# Altium schematic symbol library Hello.SchLib: 388 symbols (part 2 of 3)
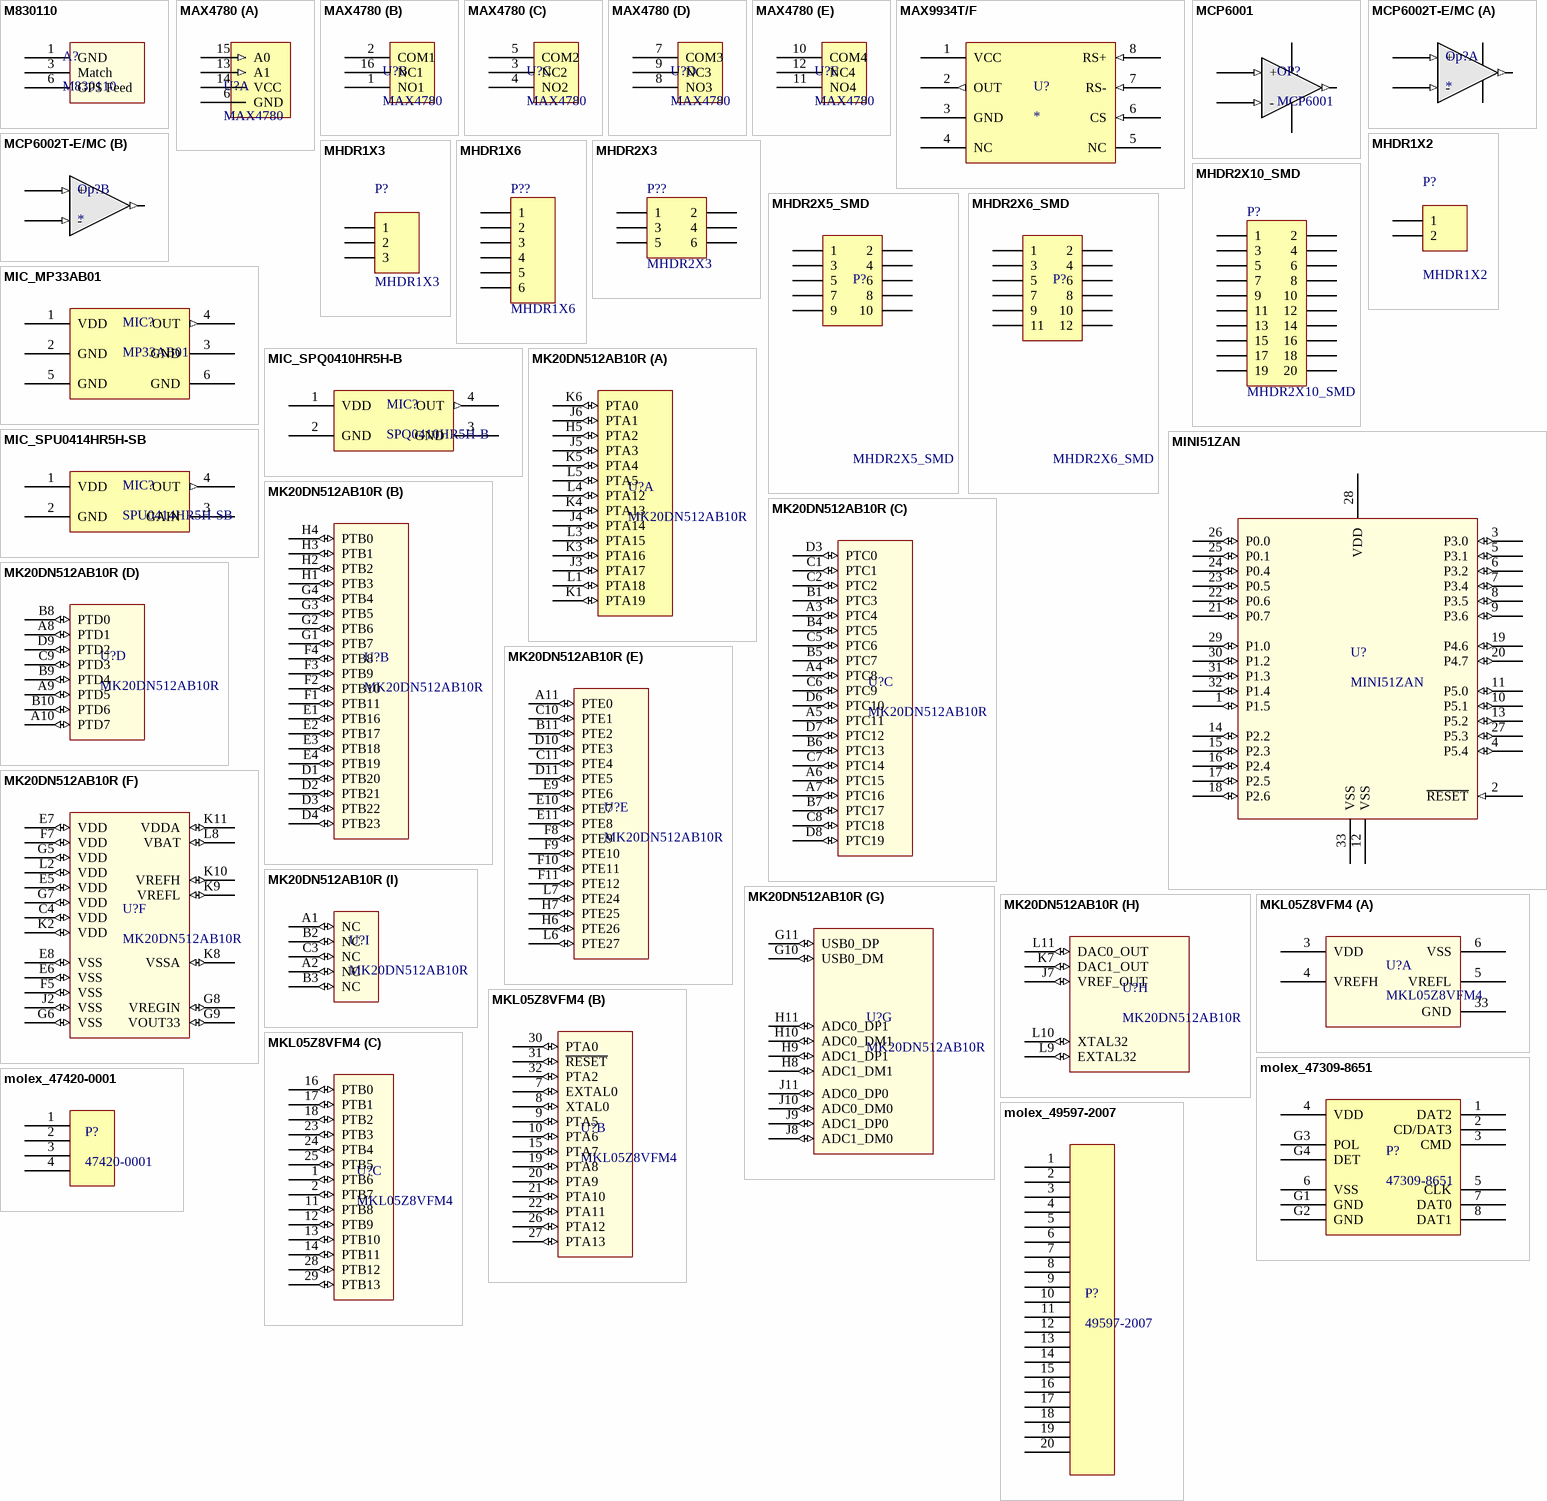
[diagram p12: symbols M830110 to molex_49597-2007]

## MHDR1X6
designator P??
Header, 6-Pin; LatestRevisionDate: 17-Jul-2002; LatestRevisionNote: Re-released for DXP Platform.; Publisher: Altium Limited
footprint MHDR1X6 (Connector; Header; 6 Position)
signal-integrity model Connector
pins: 1, 2, 3, 4, 5, 6

## MHDR2X3
designator P??
Header, 6-Pin, Dual row; LatestRevisionDate: 17-Jul-2002; LatestRevisionNote: Re-released for DXP Platform.; Publisher: Altium Limited
footprint MHDR2X3 (Connector; Header; 3x2 Position)
signal-integrity model Connector
pins: 1, 2, 3, 4, 5, 6

## MHDR2X5_SMD
designator P?
Header, 10-Pin, Dual row SMD; PN: GRPB052VWQS-RC; Vendor: Sullins Interconnect
signal-integrity model Connector
footprint MHDR2X5_SMD (Connector; Header; 5x2 Position SMD)
pins: 1, 2, 3, 4, 5, 6, 7, 8, 9, 10

## MHDR2X6_SMD
designator P?
Header, 12-Pin, Dual row SMD; PN: GRPB062VWQS-RC; Vendor: Sullins Interconnect
signal-integrity model Connector
footprint MHDR2X6 _SMD (Connector; Header; 6x2 Position SMD)
pins: 1, 2, 3, 4, 5, 6, 7, 8, 9, 10, 11, 12

## MHDR2X10_SMD
designator P?
Header, 20-Pin, Dual row SMD; PN: GRPB102VWQS-RC; Vendor: Sullins Interconnect
signal-integrity model Connector
footprint MHDR2X10_SMD (Connector; Header; 10x2 Position SMD)
pins: 1, 2, 3, 4, 5, 6, 7, 8, 9, 10, 11, 12, 13, 14, 15, 16, 17, 18, 19, 20

## MIC_MP33AB01
designator MIC?, comment MP33AB01
ST analog microphone; PN: MP33AB01; Vendor: ST
footprint MIC_MP33AB01 (ST MEMS analog bottom-port microphone)
pins: 1 VDD (power), 2 GND (power), 3 GND (power), 4 OUT (out), 5 GND (power), 6 GND (power)

## MIC_SPQ0410HR5H-B
designator MIC?, comment SPQ0410HR5H-B
Knowles analog microphone; PN: SPQ0410HR5H-B; Vendor: Knowles
footprint MIC_SPQ0410HR5H-B (Knowles analog microphone)
pins: 1 VDD (power), 2 GND (power), 3 GND (power), 4 OUT (out)

## MIC_SPU0414HR5H-SB
designator MIC?, comment SPU0414HR5H-SB
Knowles analog microphone; PN: SPU0414HR5H-SB; Vendor: Knowles
footprint MIC_SPU0414HR5H-SB (Knowles analog microphone)
pins: 1 VDD (power), 2 GND (power), 3 GAIN, 4 OUT (out)

## MINI51ZAN
designator U?
Cortex M0 uC; Vendor: Nuvoton; PN: MINI51ZAN
footprint QFN-33_5x5mm
pins: 1 P1.5 (io), 2 ~{RESET} (in), 3 P3.0 (io), 4 P5.4 (io), 5 P3.1 (io), 6 P3.2 (io), 7 P3.4 (io), 8 P3.5 (io), 9 P3.6 (io), 10 P5.1 (io), 11 P5.0 (io), 12 VSS (power), 13 P5.2 (io), 14 P2.2 (io), 15 P2.3 (io), 16 P2.4 (io), 17 P2.5 (io), 18 P2.6 (io), 19 P4.6 (io), 20 P4.7 (io), 21 P0.7 (io), 22 P0.6 (io), 23 P0.5 (io), 24 P0.4 (io), 25 P0.1 (io), 26 P0.0 (io), 27 P5.3 (io), 28 VDD (power), 29 P1.0 (io), 30 P1.2 (io), 31 P1.3 (io), 32 P1.4 (io), 33 VSS (power)

## MK20DN512AB10R
designator U?
Freescale M4F microprocessor; PN: MK20DN512AB10R; Vendor: Freescale
footprint WLCSP-120_0.4 (Wafer level chip size package, 120 pins, 0.4 mm pitch)
part A pins: H5 PTA2 (io), J3 PTA17 (io), J4 PTA14 (io), J5 PTA3 (io), J6 PTA1 (io), K1 PTA19 (io), K3 PTA16 (io), K4 PTA13 (io), K5 PTA4 (io), K6 PTA0 (io), L1 PTA18 (io), L3 PTA15 (io), L4 PTA12 (io), L5 PTA5 (io)
part B pins: D1 PTB20 (io), D2 PTB21 (io), D3 PTB22 (io), D4 PTB23 (io), E1 PTB16 (io), E2 PTB17 (io), E3 PTB18 (io), E4 PTB19 (io), F1 PTB11 (io), F2 PTB10 (io), F3 PTB9 (io), F4 PTB8 (io), G1 PTB7 (io), G2 PTB6 (io), G3 PTB5 (io), G4 PTB4 (io), H1 PTB3 (io), H2 PTB2 (io), H3 PTB1 (io), H4 PTB0 (io)
part C pins: A3 PTC4 (io), A4 PTC8 (io), A5 PTC11 (io), A6 PTC15 (io), A7 PTC16 (io), B1 PTC3 (io), B4 PTC5 (io), B5 PTC7 (io), B6 PTC13 (io), B7 PTC17 (io), C1 PTC1 (io), C2 PTC2 (io), C5 PTC6 (io), C6 PTC9 (io), C7 PTC14 (io), C8 PTC18 (io), D3 PTC0 (io), D6 PTC10 (io), D7 PTC12 (io), D8 PTC19 (io)
part D pins: A8 PTD1 (io), A9 PTD5 (io), A10 PTD7 (io), B8 PTD0 (io), B9 PTD4 (io), B10 PTD6 (io), C9 PTD3 (io), D9 PTD2 (io)
part E pins: A11 PTE0 (io), B11 PTE2 (io), C10 PTE1 (io), C11 PTE4 (io), D10 PTE3 (io), D11 PTE5 (io), E9 PTE6 (io), E10 PTE7 (io), E11 PTE8 (io), F8 PTE9 (io), F9 PTE10 (io), F10 PTE11 (io), F11 PTE12 (io), H6 PTE26 (io), H7 PTE25 (io), L6 PTE27 (io), L7 PTE24 (io)
part F pins: C4 VDD (io), E5 VDD (io), E6 VSS (io), E7 VDD (io), E8 VSS (io), F5 VSS (io), F7 VDD (io), G5 VDD (io), G6 VSS (io), G7 VDD (io), G8 VREGIN (io), G9 VOUT33 (io), J2 VSS (io), K2 VDD (io), K8 VSSA (io), K9 VREFL (io), K10 VREFH (io), K11 VDDA (io), L2 VDD (io), L8 VBAT (io)
part G pins: G10 USB0_DM (io), G11 USB0_DP (io), H8 ADC1_DM1 (io), H9 ADC1_DP1 (io), H10 ADC0_DM1 (io), H11 ADC0_DP1 (io), J8 ADC1_DM0 (io), J9 ADC1_DP0 (io), J10 ADC0_DM0 (io), J11 ADC0_DP0 (io)
part H pins: J7 VREF_OUT (io), K7 DAC1_OUT (io), L9 EXTAL32 (io), L10 XTAL32 (io), L11 DAC0_OUT (io)
part I pins: A1 NC (io), A2 NC (io), B2 NC (io), B3 NC (io), C3 NC (io)

## MKL05Z8VFM4
designator U?
Freescale M0 uC, 48-MHz, QFN-33; PN: MKL05Z8VFM4; Vendor: Freescale
footprint QFN-33_5x5mm
part A pins: 3 VDD (power), 4 VREFH (power), 5 VREFL (power), 6 VSS (power), 33 GND (power)
part B pins: 7 EXTAL0 (io), 8 XTAL0 (io), 9 PTA5 (io), 10 PTA6 (io), 15 PTA7 (io), 19 PTA8 (io), 20 PTA9 (io), 21 PTA10 (io), 22 PTA11 (io), 26 PTA12 (io), 27 PTA13 (io), 30 PTA0 (io), 31 ~{RESET} (io), 32 PTA2 (io)
part C pins: 1 PTB6 (io), 2 PTB7 (io), 11 PTB8 (io), 12 PTB9 (io), 13 PTB10 (io), 14 PTB11 (io), 16 PTB0 (io), 17 PTB1 (io), 18 PTB2 (io), 23 PTB3 (io), 24 PTB4 (io), 25 PTB5 (io), 28 PTB12 (io), 29 PTB13 (io)

## molex_47309-8651
designator P?, comment 47309-8651
Molex SD card connector; PN: 47309-8651; Vendor: Molex
footprint molex_47309-8651 (molex sd card connector)
pins: 1 DAT2, 2 CD/DAT3, 3 CMD, 4 VDD (power), 5 CLK, 6 VSS (power), 7 DAT0, 8 DAT1, G1 GND (power), G2 GND (power), G3 POL, G4 DET

## molex_47420-0001
designator P?, comment 47420-0001
Molex 4-pin spring connector 1.8 mm working height; PN: 47420-0001; Vendor: Molex
footprint molex_47420-0001 (Molex 4-pin spring connector)
pins: 1, 2, 3, 4

## molex_49597-2007
designator P?, comment 49597-2007
Molex 20-pin 1.25mm pitch connector; PN: 49597-2007; Vendor: Molex
footprint molex_49597-2007 (Molex 20-pin 1.25mm pitch connector)
pins: 1, 2, 3, 4, 5, 6, 7, 8, 9, 10, 11, 12, 13, 14, 15, 16, 17, 18, 19, 20

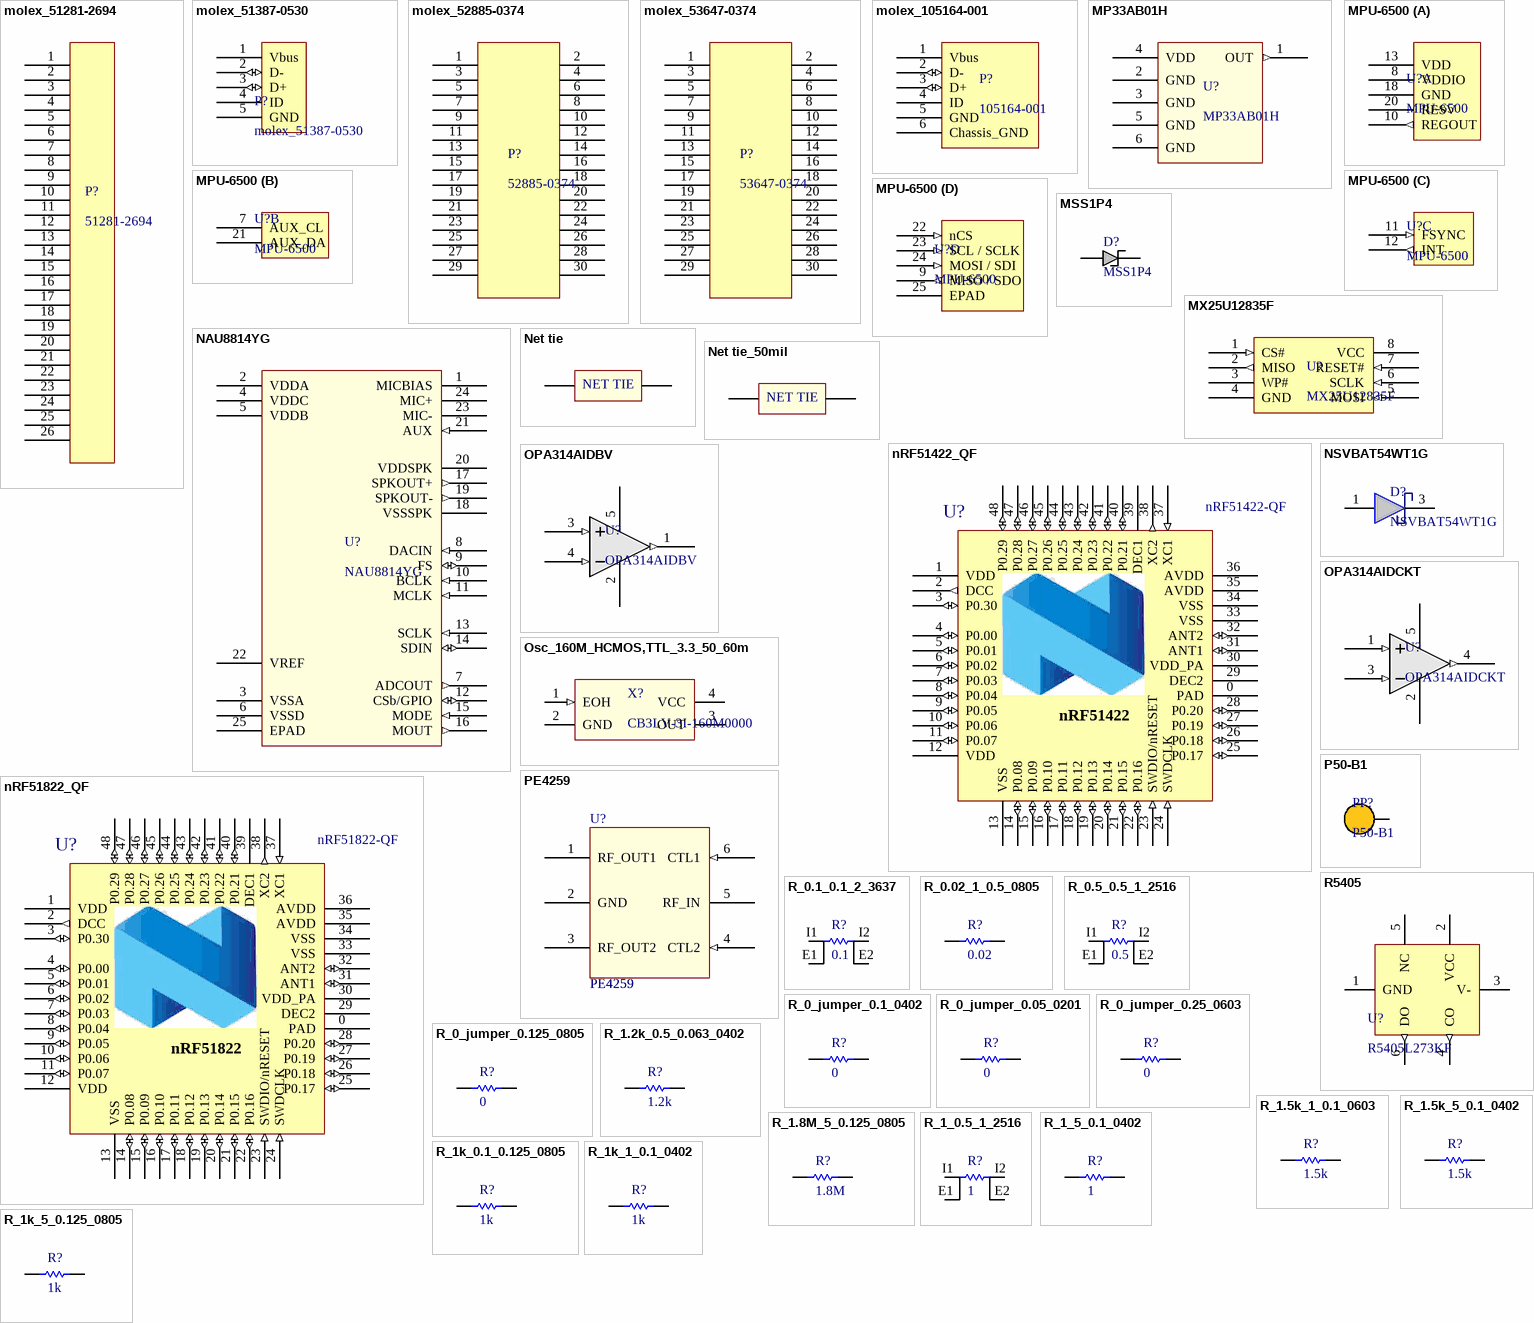
[diagram p6: symbols molex_51281-2694 to R_1k_5_0.125_0805]

## molex_51281-2694
designator P?, comment 51281-2694
Molex 26-pin 0.5mm pitch connector; PN: 51281-2694; Vendor: Molex
footprint molex_51281-2694 (Molex 26-pin 0.5mm pitch connector)
pins: 1, 2, 3, 4, 5, 6, 7, 8, 9, 10, 11, 12, 13, 14, 15, 16, 17, 18, 19, 20, 21, 22, 23, 24, 25, 26

## molex_51387-0530
designator P?
Molex right-angle USB Mini-B OTG receptacle with board guide
footprint molex_51387-0530 (Molex right-angle USB Mini-B OTG receptacle with board guide)
pins: 1 Vbus (power), 2 D- (io), 3 D+ (io), 4 ID, 5 GND (power), 6 (power) hidden to GND, 7 (power) hidden to GND, 8 (power) hidden to GND, 9 (power) hidden to GND

## molex_52885-0374
designator P?, comment 52885-0374
Molex 30-pin 0.635mm pitch receptacle connector; PN: 52885-0374; Vendor: Molex
footprint molex_52885-0374 (Molex 30-pin 0.635mm pitch receptacle connector)
pins: 1, 2, 3, 4, 5, 6, 7, 8, 9, 10, 11, 12, 13, 14, 15, 16, 17, 18, 19, 20, 21, 22, 23, 24, 25, 26, 27, 28, 29, 30

## molex_53647-0374
designator P?, comment 53647-0374
Molex 30-pin 0.635mm pitch plug connector; PN: 53647-0374; Vendor: Molex
footprint molex_53647-0374 (Molex 30-pin 0.635mm pitch plug connector)
pins: 1, 2, 3, 4, 5, 6, 7, 8, 9, 10, 11, 12, 13, 14, 15, 16, 17, 18, 19, 20, 21, 22, 23, 24, 25, 26, 27, 28, 29, 30

## molex_105164-001
designator P?, comment 105164-001
Molex right-angle reverse flangeless USB Mini-B OTG receptacle; PN: 105164-001; Vendor: Molex
footprint molex_105164-001 (Molex reverse flangless USB receptacle)
pins: 1 Vbus (power), 2 D- (io), 3 D+ (io), 4 ID, 5 GND (power), 6 Chassis_GND (power)

## MP33AB01H
designator U?
MEMS audio SMD bottom port analog microphone; Vendor: ST; PN: MP33AB01H
footprint MP33AB01H (ST analog micrphone)
pins: 1 OUT (out), 2 GND (power), 3 GND (power), 4 VDD (power), 5 GND (power), 6 GND (power)

## MPU-6500
designator U?
InvenSense MPU-6500 6-axis accelerometer and gyroscope; PN: MPU-6500; Vendor: Invensense
footprint QFN40P300X300X95_HS-25N (QFN, 24-Leads, Body 3.00x3.00mm, Pitch 0.40mm, Thermal Pad 1.54x1.70mm, IPC Medium Density)
part A pins: 8 VDDIO (power), 10 REGOUT (out), 13 VDD (power), 18 GND (power), 20 RESV "Connect to GND"
part B pins: 7 AUX_CL, 21 AUX_DA
part C pins: 11 FSYNC (in), 12 INT (out)
part D pins: 9 MISO / SDO (out), 22 nCS (in), 23 SCL / SCLK (in), 24 MOSI / SDI (in), 25 EPAD

## MSS1P4
designator D?
Schottcky Diode
footprint MSS1P4 (Schottky Diode)
pins: 1 Cathode, 2 Anode

## MX25U12835F
designator U?
Macronix MX25U12835F SPI NOR Flash; PN: MX25U12835F; Vendor: Macronix
footprint WSON 8L (WSON 8L 8x6x0.8mm)
pins: 1 CS# (in), 2 MISO (out), 3 WP#, 4 GND (power), 5 MOSI (in), 6 SCLK (in), 7 RESET# (in), 8 VCC (power)

## NAU8814YG
designator U?
Nuvoton Audio Codec; PN: NAU8814YG; Vendor: Nuvoton
footprint QFN-24_0.5 (QFN-24 with a 0.5mm pitch)
pins: 1 MICBIAS, 2 VDDA (power), 3 VSSA (power), 4 VDDC (power), 5 VDDB (power), 6 VSSD (power), 7 ADCOUT (out), 8 DACIN (in), 9 FS (io) "I2S", 10 BCLK (in) "I2S", 11 MCLK (in), 12 CSb/GPIO (io) "I2S", 13 SCLK (in) "I2C SCL", 14 SDIN (io) "I2C SDA", 15 MODE (in), 16 MOUT (out), 17 SPKOUT+ (out), 18 VSSSPK (power), 19 SPKOUT- (out), 20 VDDSPK (power), 21 AUX (in), 22 VREF, 23 MIC-, 24 MIC+, 25 EPAD "CENTER PAD"

## Net tie
designator NT?, comment NT  (value not drawn)  (net tie, no BOM)
Net tie
footprint Net_tie (short circuit to tie 2 nets)
pins: 1, 2
1 alternate drawing of the same symbol
text: NET TIE

## Net tie_50mil
designator NT?, comment NT  (value not drawn)  (net tie, no BOM)
Net tie to bridge 50 mil spacing connector holes
footprint Net_tie_50mil (Trace to bridge 2 hoels in a 50 mil pitch connector)
pins: 1, 2
1 alternate drawing of the same symbol
text: NET TIE

## nRF51422_QF
designator U?, comment nRF51422-QF
Multi-protocol Bluetooth Low Energy, ANT and 2.4GHz proprietary system-on-chip; Vendor: Nordic Semiconductor; PN: nRF51422-QF
footprint VQFN40P600X600X100-48
pins: 0 PAD (power), 1 VDD (power), 2 DCC (out), 3 P0.30 (io), 4 P0.00 (io), 5 P0.01 (io), 6 P0.02 (io), 7 P0.03 (io), 8 P0.04 (io), 9 P0.05 (io), 10 P0.06 (io), 11 P0.07 (io), 12 VDD (power), 13 VSS (power), 14 P0.08 (io), 15 P0.09 (io), 16 P0.10 (io), 17 P0.11 (io), 18 P0.12 (io), 19 P0.13 (io), 20 P0.14 (io), 21 P0.15 (io), 22 P0.16 (io), 23 SWDIO/nRESET (in), 24 SWDCLK (in), 25 P0.17 (io), 26 P0.18 (io), 27 P0.19 (io), 28 P0.20 (io), 29 DEC2 (power), 30 VDD_PA (power), 31 ANT1 (io), 32 ANT2 (io), 33 VSS (power), 34 VSS (power), 35 AVDD (power), 36 AVDD (power), 37 XC1 (in), 38 XC2 (out), 39 DEC1 (power), 40 P0.21 (io), 41 P0.22 (io), 42 P0.23 (io), 43 P0.24 (io), 44 P0.25 (io), 45 P0.26 (io), 46 P0.27 (io), 47 P0.28 (io), 48 P0.29 (io)
text: nRF51422

## nRF51822_QF
designator U?, comment nRF51822-QF
Multi-protocol Bluetooth Low Energy and 2.4GHz proprietary system-on-chip; Vendor: Nordic Semiconductor; PN: nRF51822-QF
footprint VQFN40P600X600X100-48
pins: 0 PAD (power), 1 VDD (power), 2 DCC (out), 3 P0.30 (io), 4 P0.00 (io), 5 P0.01 (io), 6 P0.02 (io), 7 P0.03 (io), 8 P0.04 (io), 9 P0.05 (io), 10 P0.06 (io), 11 P0.07 (io), 12 VDD (power), 13 VSS (power), 14 P0.08 (io), 15 P0.09 (io), 16 P0.10 (io), 17 P0.11 (io), 18 P0.12 (io), 19 P0.13 (io), 20 P0.14 (io), 21 P0.15 (io), 22 P0.16 (io), 23 SWDIO/nRESET (in), 24 SWDCLK (in), 25 P0.17 (io), 26 P0.18 (io), 27 P0.19 (io), 28 P0.20 (io), 29 DEC2 (power), 30 VDD_PA (power), 31 ANT1 (io), 32 ANT2 (io), 33 VSS (power), 34 VSS (power), 35 AVDD (power), 36 AVDD (power), 37 XC1 (in), 38 XC2 (out), 39 DEC1 (power), 40 P0.21 (io), 41 P0.22 (io), 42 P0.23 (io), 43 P0.24 (io), 44 P0.25 (io), 45 P0.26 (io), 46 P0.27 (io), 47 P0.28 (io), 48 P0.29 (io)
text: nRF51822

## NSVBAT54WT1G
designator D?
Single small signal schottky diode; Vendor: Onsemi; PN: NSVBAT54WT1G
footprint SOT-323
pins: 1 Anode, 3 Cathode

## OPA314AIDBV
designator U?
TI single 1.8-5.5V OPAMP; PN: OPA314AIDBV; Vendor: TI
footprint SOT95P280X145-5N (SOT23, 5-Leads, Body 2.90x2.80mm, Pitch 0.95mm, IPC Medium Density)
pins: 1 OUT (out), 2 V- (power), 3 IN+ (in), 4 IN- (in), 5 V+ (power)

## OPA314AIDCKT
designator U?
TI single 1.8-5.5V OPAMP; PN: OPA314AIDCKT; Vendor: TI
footprint SC-70-5 (SC-70 with 5 leads)
pins: 1 IN+ (in), 2 V- (power), 3 IN- (in), 4 OUT (out), 5 V+ (power)

## Osc_160M_HCMOS,TTL_3.3_50_60m
designator X?, comment CB3LV-3I-160M0000
160MHz Oscillator; Vendor: CTS; PN: CB3LV-3I-160M0000
pins: 1 EOH (in), 2 GND (power), 3 OUT, 4 VCC (power)

## P50-B1
designator PP?
P50-B1 Conical tipped pogo pin
footprint P50-B1 (P50-B1 Test Point 0.68x16.55mm 2.6mm stroke)
pins: 1

## PE4259
designator U?
RF Switch; Vendor: Peregrine semiconductor; PN: PE4259
footprint SOT65P212X110-6N (SOT23, 6-Leads, Body 2.3x2.3mm (max), Pitch 0.65mm, IPC Medium Density)
pins: 1 RF_OUT1, 2 GND (power), 3 RF_OUT2, 4 CTL2 (in), 5 RF_IN, 6 CTL1 (in)

## R5405
designator U?, comment R5405L273KF
Ricoh Li-ion/Polymer Battery Protection
footprint DFN1616-6 (6-Pin DFN 1.6 x 1.6 mm)
pins: 1 GND, 2 VCC (power), 3 V-, 4 CO (out), 5 NC (power), 6 DO (out)

## R_0.1_0.1_2_3637
designator R?, comment 0.1
Chip Resistor; Vendor: Vishay Foil Resistors; Tolerance: 0.1 %; Power: 2 W; PN: Y14880R10000B9R; Model: *; Value: 0.1; Size: 3637
footprint Y14880R10000B9R (4-wire kelvin precision resistor, 3637 footprint)
pins: E1, E2, I1, I2

## R_0.02_1_0.5_0805
designator R?, comment 0.02
Chip Resistor; Vendor: Panasonic; Tolerance: 1 %; Power: 0.5; PN: ERJ-6BWFR020V; Model: *; Value: 0.02; Size: 0805
footprint RES0805_SENSE_DVT (Chip resistor 0805)
pins: 1, 2

## R_0.5_0.5_1_2516
designator R?, comment 0.5
Chip Resistor; Vendor: Vishay Foil Resistors; Tolerance: 0.5 %; Power: 1 W; PN: Y08560R50000D9W; Model: *; Value: 0.5; Size: 2516
footprint Y08560R50000D9W (4-wire kelvin resistor)
pins: E1, E2, I1, I2

## R_0_jumper_0.1_0402
designator R?, comment 0
Chip Resistor; Vendor: Panasonic; Tolerance: Jumper; Power: 0.1 W; PN: ERJ-2GE0R00X; Model: *; Value: 0; Size: 0402
footprint RES0402_SENSE_DVT (Chip resistor 0402)
pins: 1, 2

## R_0_jumper_0.05_0201
designator R?, comment 0
Chip Resistor; Vendor: Panasonic; Tolerance: Jumper; Power: 0.05 W; PN: ERJ-1GE0R00C; Model: *; Value: 0; Size: 0201
footprint RES0201 (Chip resistor 0201 high density)
pins: 1, 2

## R_0_jumper_0.25_0603
designator R?, comment 0
Chip Resistor; Vendor: Vishay Dale; Tolerance: Jumper; Power: 0.25 W; PN: CRCW06030000Z0EAHP; Model: *; Value: 0; Size: 0603
footprint RES0603_SENSE_DVT (Chip resistor 0603)
pins: 1, 2

## R_0_jumper_0.125_0805
designator R?, comment 0
Chip Resistor; Vendor: Panasonic; Tolerance: Jumper; Power: 0.125 W; PN: ERJ-6GEY0R00V; Model: *; Value: 0; Size: 0805
footprint RES0805_SENSE_DVT (Chip resistor 0805)
pins: 1, 2

## R_1.2k_0.5_0.063_0402
designator R?, comment 1.2k
Chip Resistor; Vendor: Panasonic; Tolerance: 0.5 %; Power: 0.063 W; PN: ERA-2AEB122X; Model: *; Value: 1.2k; Size: 0402
footprint RES0402_SENSE_DVT (Chip resistor 0402)
pins: 1, 2

## R_1.5k_1_0.1_0603
designator R?, comment 1.5k
Chip Resistor; Vendor: Panasonic; Tolerance: 1 %; Power: 0.1 W; PN: ERJ-3EKF1501V; Model: *; Value: 1.5k; Size: 0603
footprint RES0603_SENSE_DVT (Chip resistor 0603)
pins: 1, 2

## R_1.5k_5_0.1_0402
designator R?, comment 1.5k
Chip Resistor; Vendor: Panasonic; Tolerance: 5 %; Power: 0.1 W; PN: ERJ-2GEJ152X; Model: *; Value: 1.5k; Size: 0402
footprint RES0402_SENSE_DVT (Chip resistor 0402)
pins: 1, 2

## R_1.8M_5_0.125_0805
designator R?, comment 1.8M
Chip Resistor; Vendor: Panasonic; Tolerance: 5 %; Power: 0.125 W; PN: ERJ-6GEYJ185V; Model: *; Value: 1.8M; Size: 0805
footprint RES0805_SENSE_DVT (Chip resistor 0805)
pins: 1, 2

## R_1_0.5_1_2516
designator R?, comment 1
Chip Resistor; Vendor: Vishay Foil Resistors; Tolerance: 0.1 %; Power: 1 W; PN: Y16061R00000B9W; Model: *; Value: 1; Size: 2516
footprint Y08560R50000D9W (4-wire kelvin resistor)
pins: E1, E2, I1, I2

## R_1_5_0.1_0402
designator R?, comment 1
Chip Resistor; Vendor: Panasonic; Tolerance: 5 %; Power: 0.1 W; PN: ERJ-2GEJ1R0X; Model: *; Value: 1; Size: 0402
footprint RES0402_SENSE_DVT (Chip resistor 0402)
pins: 1, 2

## R_1k_0.1_0.125_0805
designator R?, comment 1k
Chip Resistor; Vendor: Panasonic; Tolerance: 0.1 %; Power: 0.125 W; PN: ERA-6AEB102V; Model: *; Value: 1k; Size: 0805
footprint RES0805_SENSE_DVT (Chip resistor 0805)
pins: 1, 2

## R_1k_1_0.1_0402
designator R?, comment 1k
Chip Resistor; Vendor: Panasonic; Tolerance: 1 %; Power: 0.1 W; PN: ERJ-2RKF1001X; Model: *; Value: 1k; Size: 0402
footprint RES0402_SENSE_DVT (Chip resistor 0402)
pins: 1, 2

## R_1k_5_0.125_0805
designator R?, comment 1k
Chip Resistor; Vendor: Panasonic; Tolerance: 5 %; Power: 0.125 W; PN: ERJ-6GEYJ102V; Model: *; Value: 1k; Size: 0805
footprint RES0805_SENSE_DVT (Chip resistor 0805)
pins: 1, 2

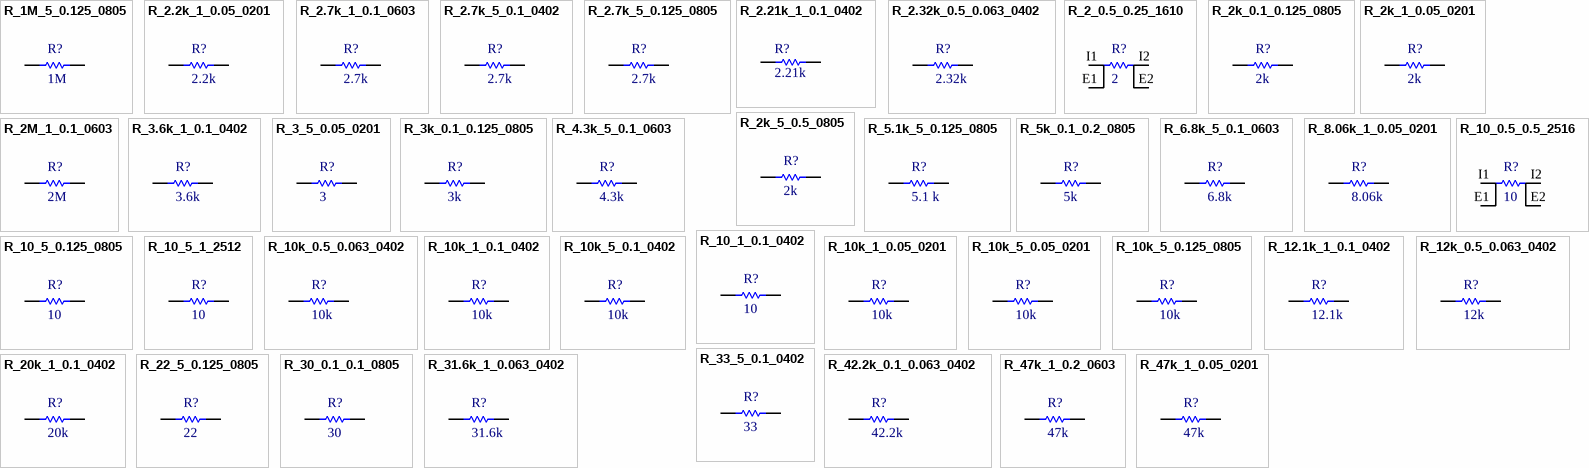
[diagram p7: symbols R_1M_5_0.125_0805 to R_47k_1_0.05_0201]

## R_1M_5_0.125_0805
designator R?, comment 1M
Chip Resistor; Vendor: Panasonic; Tolerance: 5 %; Power: 0.125 W; PN: ERJ-6GEYJ105V; Model: *; Value: 1M; Size: 0805
footprint RES0805_SENSE_DVT (Chip resistor 0805)
pins: 1, 2

## R_2.2k_1_0.05_0201
designator R?, comment 2.2k
Chip Resistor; Vendor: Panasonic; Tolerance: 1 %; Power: 0.05 W; PN: ERJ-1GEF2201C; Model: *; Value: 2.2k; Size: 0201
footprint RES0201 (Chip resistor 0201 high density)
pins: 1, 2

## R_2.7k_1_0.1_0603
designator R?, comment 2.7k
Chip Resistor; Vendor: Panasonic; Tolerance: 1 %; Power: 0.1 W; PN: ERJ-3EKF2701V; Model: *; Value: 2.7k; Size: 0603
footprint RES0603_SENSE_DVT (Chip resistor 0603)
pins: 1, 2

## R_2.7k_5_0.1_0402
designator R?, comment 2.7k
Chip Resistor; Vendor: Panasonic; Tolerance: 5 %; Power: 0.1 W; PN: ERJ-2GEJ272X; Model: *; Value: 2.7k; Size: 0402
footprint RES0402_SENSE_DVT (Chip resistor 0402)
pins: 1, 2

## R_2.7k_5_0.125_0805
designator R?, comment 2.7k
Chip Resistor; Vendor: Panasonic; Tolerance: 5 %; Power: 0.125 W; PN: ERJ-6GEYJ272V; Model: *; Value: 2.7k; Size: 0805
footprint RES0805_SENSE_DVT (Chip resistor 0805)
pins: 1, 2

## R_2.21k_1_0.1_0402
designator R?, comment 2.21k
Chip Resistor; Vendor: Panasonic; Tolerance: 1 %; Power: 0.1 W; PN: ERJ-2RKF2211X; Model: *; Value: 2.21k; Size: 0402
footprint RES0402_SENSE_DVT (Chip resistor 0402)
pins: 1, 2

## R_2.32k_0.5_0.063_0402
designator R?, comment 2.32k
Chip Resistor; Vendor: Panasonic; Tolerance: 0.5 %; Power: 0.063 W; PN: ERA-2AEB2321X; Model: *; Value: 2.32k; Size: 0402
footprint RES0402_SENSE_DVT (Chip resistor 0402)
pins: 1, 2

## R_2_0.5_0.25_1610
designator R?, comment 2
Chip Resistor; Vendor: Vishay Foil Resistors; Tolerance: 0.5 %; Power: 0.25 W; PN: Y11192R00000D9W; Model: *; Value: 2; Size: 1610
footprint Y11192R00000D9W (4-wire kelvin resistor)
pins: E1, E2, I1, I2

## R_2k_0.1_0.125_0805
designator R?, comment 2k
Chip Resistor; Vendor: Panasonic; Tolerance: 0.1 %; Power: 0.125 W; PN: ERA-6AEB202V; Model: *; Value: 2k; Size: 0805
footprint RES0805_SENSE_DVT (Chip resistor 0805)
pins: 1, 2

## R_2k_1_0.05_0201
designator R?, comment 2k
Chip Resistor; Vendor: Panasonic; Tolerance: 1 %; Power: 0.05 W; PN: ERJ-1GEF2001C; Model: *; Value: 2k; Size: 0201
footprint RES0201 (Chip resistor 0201 high density)
pins: 1, 2

## R_2k_5_0.5_0805
designator R?, comment 2k
Chip Resistor; Vendor: Panasonic; Tolerance: 5 %; Power: 0.5 W; PN: ERJ-P06J202V; Model: *; Value: 2k; Size: 0805
footprint RES0805_SENSE_DVT (Chip resistor 0805)
pins: 1, 2

## R_2M_1_0.1_0603
designator R?, comment 2M
Chip Resistor; Vendor: Yageo; Tolerance: 1 %; Power: 0.1 W; PN: RC0603FR-072ML; Model: *; Value: 2M; Size: 0603
footprint RES0603_SENSE_DVT (Chip resistor 0603)
pins: 1, 2

## R_3.6k_1_0.1_0402
designator R?, comment 3.6k
Chip Resistor; Vendor: Panasonic; Tolerance: 1 %; Power: 0.1 W; PN: ERJ-2RKF3601X; Model: *; Value: 3.6k; Size: 0402
footprint RES0402_SENSE_DVT (Chip resistor 0402)
pins: 1, 2

## R_3_5_0.05_0201
designator R?, comment 3
Chip Resistor; Vendor: Panasonic; Tolerance: 5 %; Power: 0.05 W; PN: ERJ-1GEJ3R0C; Model: *; Value: 3; Size: 0201
footprint RES0201 (Chip resistor 0201 high density)
pins: 1, 2

## R_3k_0.1_0.125_0805
designator R?, comment 3k
Chip Resistor; Vendor: Panasonic; Tolerance: 0.1 %; Power: 0.125 W; PN: ERA-6ARB302V; Model: *; Value: 3k; Size: 0805
footprint RES0805_SENSE_DVT (Chip resistor 0805)
pins: 1, 2

## R_4.3k_5_0.1_0603
designator R?, comment 4.3k
Chip Resistor; Vendor: Panasonic; Tolerance: 5 %; Power: 0.1 W; PN: ERJ-3GEYJ432V; Model: *; Value: 4.3k; Size: 0603
footprint RES0603_SENSE_DVT (Chip resistor 0603)
pins: 1, 2

## R_5.1k_5_0.125_0805
designator R?, comment 5.1 k
Chip Resistor; Vendor: Panasonic; Tolerance: 5 %; Power: 0.125 W; PN: ERJ-6GEYJ512V; Model: *; Value: 5.1 k; Size: 0805
footprint RES0805_SENSE_DVT (Chip resistor 0805)
pins: 1, 2

## R_5k_0.1_0.2_0805
designator R?, comment 5k
Chip Resistor; Vendor: Vishay Thin Film; Tolerance: 0.1 %; Power: 0.2 W; PN: PNM0805E5001BST5; Model: *; Value: 5k; Size: 0805
footprint RES0805_SENSE_DVT (Chip resistor 0805)
pins: 1, 2

## R_6.8k_5_0.1_0603
designator R?, comment 6.8k
Chip Resistor; Vendor: Panasonic; Tolerance: 5 %; Power: 0.1 W; PN: ERJ-3GEYJ682V; Model: *; Value: 6.8k; Size: 0603
footprint RES0603_SENSE_DVT (Chip resistor 0603)
pins: 1, 2

## R_8.06k_1_0.05_0201
designator R?, comment 8.06k
Chip Resistor; Vendor: Panasonic; Tolerance: 1 %; Power: 0.05 W; PN: ERJ-1GEF8061C; Model: *; Value: 8.06k; Size: 0201
footprint RES0201 (Chip resistor 0201 high density)
pins: 1, 2

## R_10_0.5_0.5_2516
designator R?, comment 10
Chip Resistor; Vendor: Vishay Foil Resistors; Tolerance: 0.5 %; Power: 0.5 W; PN: Y160710R0000D9W; Model: *; Value: 10; Size: 2516
footprint Y160710R0000D9W (4-wire kelvin resistor)
pins: E1, E2, I1, I2

## R_10_1_0.1_0402
designator R?, comment 10
Chip Resistor; Vendor: Panasonic; Tolerance: 1 %; Power: 0.1 W; PN: ERJ-2RKF10R0X; Model: *; Value: 10; Size: 0402
footprint RES0402_SENSE_DVT (Chip resistor 0402)
pins: 1, 2

## R_10_5_0.125_0805
designator R?, comment 10
Chip Resistor; Vendor: Panasonic; Tolerance: 5 %; Power: 0.1 W; PN: ERJ-6GEYJ100V; Model: *; Value: 10; Size: 0805
footprint RES0805_SENSE_DVT (Chip resistor 0805)
pins: 1, 2

## R_10_5_1_2512
designator R?, comment 10
Chip Resistor; Vendor: Panasonic; Tolerance: 5 %; Power: 1 W; PN: ERJ-1TYJ100U; Model: *; Value: 10; Size: 2512
footprint RES2512 (Chip resistor 2512 high density)
pins: 1, 2

## R_10k_0.5_0.063_0402
designator R?, comment 10k
Chip Resistor; Vendor: Panasonic; Tolerance: 0.5 %; Power: 0.063 W; PN: ERA-2AED103X; Model: *; Value: 10k; Size: 0402
footprint RES0402_SENSE_DVT (Chip resistor 0402)
pins: 1, 2

## R_10k_1_0.1_0402
designator R?, comment 10k
Chip Resistor; Vendor: Panasonic; Tolerance: 1 %; Power: 0.1 W; PN: ERJ-2RKF1002X; Model: *; Value: 10k; Size: 0402
footprint RES0402_SENSE_DVT (Chip resistor 0402)
pins: 1, 2

## R_10k_1_0.05_0201
designator R?, comment 10k
Chip Resistor; Vendor: Panasonic; Tolerance: 1 %; Power: 0.05 W; PN: ERJ-1GEF1002C; Model: *; Value: 10k; Size: 0201
footprint RES0201 (Chip resistor 0201 high density)
pins: 1, 2

## R_10k_5_0.1_0402
designator R?, comment 10k
Chip Resistor; Vendor: Panasonic; Tolerance: 5 %; Power: 0.1 W; PN: ERJ-2GEJ103X; Model: *; Value: 10k; Size: 0402
footprint RES0402_SENSE_DVT (Chip resistor 0402)
pins: 1, 2

## R_10k_5_0.05_0201
designator R?, comment 10k
Chip Resistor; Vendor: Panasonic; Tolerance: 5%; Power: 0.05 W; PN: ERJ-1GEJ103C; Model: *; Value: 10k; Size: 0201
footprint RES0201 (Chip resistor 0201 high density)
pins: 1, 2

## R_10k_5_0.125_0805
designator R?, comment 10k
Chip Resistor; Vendor: Panasonic; Tolerance: 5 %; Power: 0.125 W; PN: ERJ-6GEYJ103V; Model: *; Value: 10k; Size: 0805
footprint RES0805_SENSE_DVT (Chip resistor 0805)
pins: 1, 2

## R_12.1k_1_0.1_0402
designator R?, comment 12.1k
Chip Resistor; Vendor: Panasonic; Tolerance: 1 %; Power: 0.1 W; PN: ERJ-2RKF1212X; Model: *; Value: 12.1k; Size: 0402
footprint RES0402_SENSE_DVT (Chip resistor 0402)
pins: 1, 2

## R_12k_0.5_0.063_0402
designator R?, comment 12k
Chip Resistor; Vendor: Panasonic; Tolerance: 0.5 %; Power: 0.063 W; PN: ERA-2AED123X; Model: *; Value: 12k; Size: 0402
footprint RES0402_SENSE_DVT (Chip resistor 0402)
pins: 1, 2

## R_20k_1_0.1_0402
designator R?, comment 20k
Chip Resistor; Vendor: Panasonic; Tolerance: 1 %; Power: 0.1 W; PN: ERJ-2RKF2002X; Model: *; Value: 20k; Size: 0402
footprint RES0402_SENSE_DVT (Chip resistor 0402)
pins: 1, 2

## R_22_5_0.125_0805
designator R?, comment 22
Chip Resistor; Vendor: Panasonic; Tolerance: 5 %; Power: 0.125 W; PN: ERJ-6GEYJ220V; Model: *; Value: 22; Size: 0805
footprint RES0805_SENSE_DVT (Chip resistor 0805)
pins: 1, 2

## R_30_0.1_0.1_0805
designator R?, comment 30
Chip Resistor; Vendor: TE Connectivity; Tolerance: 0.1 %; Power: 0.1 W; PN: 2-1614884-8; Model: *; Value: 30; Size: 0805
footprint RES0805_SENSE_DVT (Chip resistor 0805)
pins: 1, 2

## R_31.6k_1_0.063_0402
designator R?, comment 31.6k
Chip Resistor; Vendor: Panasonic; Tolerance: 1 %; Power: 0.063 W; PN: ERJ-2RKF3162X; Model: *; Value: 31.6k; Size: 0402
footprint RES0402_SENSE_DVT (Chip resistor 0402)
pins: 1, 2

## R_33_5_0.1_0402
designator R?, comment 33
Chip Resistor; Vendor: Panasonic; Tolerance: 5 %; Power: 0.1 W; PN: ERJ-2GEJ330X; Model: *; Value: 33; Size: 0402
footprint RES0402_SENSE_DVT (Chip resistor 0402)
pins: 1, 2

## R_42.2k_0.1_0.063_0402
designator R?, comment 42.2k
Chip Resistor; Vendor: Panasonic; Tolerance: 0.1 %; Power: 0.063 W; PN: ERA-2AEB4222X; Model: *; Value: 42.2k; Size: 0402
footprint RES0402_SENSE_DVT (Chip resistor 0402)
pins: 1, 2

## R_47k_1_0.2_0603
designator R?, comment 47k
Chip Resistor; Vendor: Panasonic; Tolerance: 1 %; Power: 0.2 W; PN: ERJ-P03F4702V; Model: *; Value: 47k; Size: 0603
footprint RES0603_SENSE_DVT (Chip resistor 0603)
pins: 1, 2

## R_47k_1_0.05_0201
designator R?, comment 47k
Chip Resistor; Vendor: Panasonic; Tolerance: 1 %; Power: 0.05 W; PN: ERJ-1GEF4702C; Model: *; Value: 47k; Size: 0201
footprint RES0201 (Chip resistor 0201 high density)
pins: 1, 2

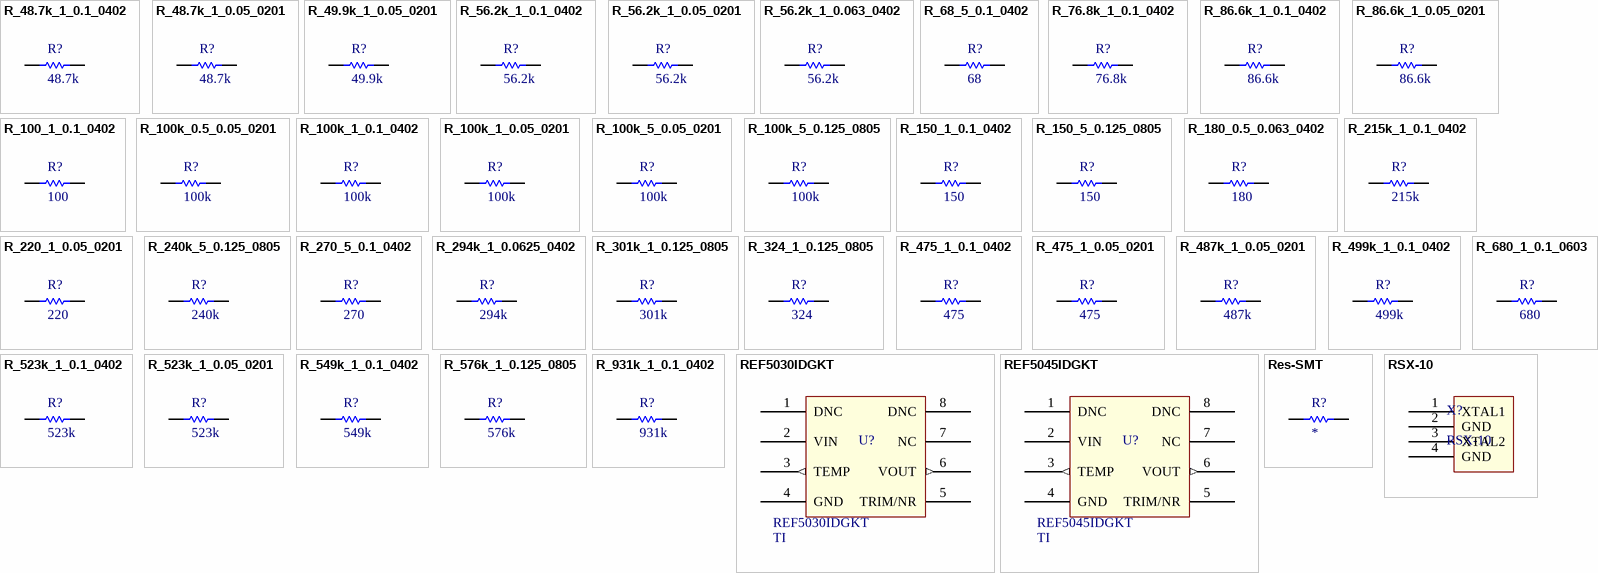
[diagram p8: symbols R_48.7k_1_0.1_0402 to RSX-10]

## R_48.7k_1_0.1_0402
designator R?, comment 48.7k
Chip Resistor; Vendor: Panasonic; Tolerance: 1 %; Power: 0.1 W; PN: ERJ-2RKF4872X; Model: *; Value: 48.7k; Size: 0402
footprint RES0402_SENSE_DVT (Chip resistor 0402)
pins: 1, 2

## R_48.7k_1_0.05_0201
designator R?, comment 48.7k
Chip Resistor; Vendor: Panasonic; Tolerance: 1 %; Power: 0.05 W; PN: ERJ-1GEF4872C; Model: *; Value: 48.7k; Size: 0201
footprint RES0201 (Chip resistor 0201 high density)
pins: 1, 2

## R_49.9k_1_0.05_0201
designator R?, comment 49.9k
Chip Resistor; Vendor: Panasonic; Tolerance: 1 %; Power: 0.05 W; PN: ERJ-1GEF4992C; Model: *; Value: 49.9k; Size: 0201
footprint RES0201 (Chip resistor 0201 high density)
pins: 1, 2

## R_56.2k_1_0.1_0402
designator R?, comment 56.2k
Chip Resistor; Vendor: Panasonic; Tolerance: 1 %; Power: 0.1 W; PN: ERJ-2RKF5622X; Model: *; Value: 56.2k; Size: 0402
footprint RES0402_SENSE_DVT (Chip resistor 0402)
pins: 1, 2

## R_56.2k_1_0.05_0201
designator R?, comment 56.2k
Chip Resistor; Vendor: Panasonic; Tolerance: 1 %; Power: 0.05 W; PN: ERJ-1GEF5622C; Model: *; Value: 56.2k; Size: 0201
footprint RES0201 (Chip resistor 0201 high density)
pins: 1, 2

## R_56.2k_1_0.063_0402
designator R?, comment 56.2k
Chip Resistor; Vendor: Panasonic; Tolerance: 1 %; Power: 0.063 W; PN: ERJ-2RKF5622X; Model: *; Value: 56.2k; Size: 0402
footprint RES0402_SENSE_DVT (Chip resistor 0402)
pins: 1, 2

## R_68_5_0.1_0402
designator R?, comment 68
Chip Resistor; Vendor: Panasonic; Tolerance: 5 %; Power: 0.1 W; PN: ERJ-2GEJ680X; Model: *; Value: 68; Size: 0402
footprint RES0402_SENSE_DVT (Chip resistor 0402)
pins: 1, 2

## R_76.8k_1_0.1_0402
designator R?, comment 76.8k
Chip Resistor; Vendor: Panasonic; Tolerance: 1 %; Power: 0.1 W; PN: ERJ-2RKF7682X; Model: *; Value: 76.8k; Size: 0402
footprint RES0402_SENSE_DVT (Chip resistor 0402)
pins: 1, 2

## R_86.6k_1_0.1_0402
designator R?, comment 86.6k
Chip Resistor; Vendor: Panasonic; Tolerance: 1 %; Power: 0.1 W; PN: ERJ-2RKF8662X; Model: *; Value: 86.6k; Size: 0402
footprint RES0402_SENSE_DVT (Chip resistor 0402)
pins: 1, 2

## R_86.6k_1_0.05_0201
designator R?, comment 86.6k
Chip Resistor; Vendor: Panasonic; Tolerance: 1 %; Power: 0.05 W; PN: ERJ-1GEF8662C; Model: *; Value: 86.6k; Size: 0201
footprint RES0201 (Chip resistor 0201 high density)
pins: 1, 2

## R_100_1_0.1_0402
designator R?, comment 100
Chip Resistor; Vendor: Panasonic; Tolerance: 1 %; Power: 0.1 W; PN: ERJ-2RKF1000X; Model: *; Value: 100; Size: 0402
footprint RES0402_SENSE_DVT (Chip resistor 0402)
pins: 1, 2

## R_100k_0.5_0.05_0201
designator R?, comment 100k
Chip Resistor; Vendor: Panasonic; Tolerance: 0.5 %; Power: 0.05 W; PN: ERJ-1RHD1003C; Model: *; Value: 100k; Size: 0201
footprint RES0201 (Chip resistor 0201 high density)
pins: 1, 2

## R_100k_1_0.1_0402
designator R?, comment 100k
Chip Resistor; Vendor: Panasonic; Tolerance: 1 %; Power: 0.1 W; PN: ERJ-2RKF1003X; Model: *; Value: 100k; Size: 0402
footprint RES0402_SENSE_DVT (Chip resistor 0402)
pins: 1, 2

## R_100k_1_0.05_0201
designator R?, comment 100k
Chip Resistor; Vendor: Panasonic; Tolerance: 1 %; Power: 0.05 W; PN: ERJ-1GEF1003C; Model: *; Value: 100k; Size: 0201
footprint RES0201 (Chip resistor 0201 high density)
pins: 1, 2

## R_100k_5_0.05_0201
designator R?, comment 100k
Chip Resistor; Vendor: Panasonic; Tolerance: 5 %; Power: 0.05 W; PN: ERJ-1GEJ104C; Model: *; Value: 100k; Size: 0201
footprint RES0201 (Chip resistor 0201 high density)
pins: 1, 2

## R_100k_5_0.125_0805
designator R?, comment 100k
Chip Resistor; Vendor: Panasonic; Tolerance: 5 %; Power: 0.125 W; PN: ERJ-6GEYJ104V; Model: *; Value: 100k; Size: 0805
footprint RES0805_SENSE_DVT (Chip resistor 0805)
pins: 1, 2

## R_150_1_0.1_0402
designator R?, comment 150
Chip Resistor; Vendor: Panasonic; Tolerance: 1 %; Power: 0.1 W; PN: ERJ-2RKF1500X; Model: *; Value: 150; Size: 0402
footprint RES0402_SENSE_DVT (Chip resistor 0402)
pins: 1, 2

## R_150_5_0.125_0805
designator R?, comment 150
Chip Resistor; Vendor: Panasonic; Tolerance: 5 %; Power: 0.125 W; PN: ERJ-6GEYJ151V; Model: *; Value: 150; Size: 0805
footprint RES0805_SENSE_DVT (Chip resistor 0805)
pins: 1, 2

## R_180_0.5_0.063_0402
designator R?, comment 180
Chip Resistor; Vendor: Panasonic; Tolerance: 0.5 %; Power: 0.063 W; PN: ERA-2AED181X; Model: *; Value: 180; Size: 0402
footprint RES0402_SENSE_DVT (Chip resistor 0402)
pins: 1, 2

## R_215k_1_0.1_0402
designator R?, comment 215k
Chip Resistor; Vendor: Panasonic; Tolerance: 1 %; Power: 0.1 W; PN: ERJ-2RKF2153X; Model: *; Value: 215k; Size: 0402
footprint RES0402_SENSE_DVT (Chip resistor 0402)
pins: 1, 2

## R_220_1_0.05_0201
designator R?, comment 220
Chip Resistor; Vendor: Panasonic; Tolerance: 1 %; Power: 0.125 W; PN: ERJ-1GEF2200C; Model: *; Value: 220; Size: 0201
footprint RES0201 (Chip resistor 0201 high density)
pins: 1, 2

## R_240k_5_0.125_0805
designator R?, comment 240k
Chip Resistor; Vendor: Panasonic; Tolerance: 5 %; Power: 0.125 W; PN: ERJ-6GEYJ244V; Model: *; Value: 240k; Size: 0805
footprint RES0805_SENSE_DVT (Chip resistor 0805)
pins: 1, 2

## R_270_5_0.1_0402
designator R?, comment 270
Chip Resistor; Vendor: Panasonic; Tolerance: 5 %; Power: 0.1 W; PN: ERJ-2GEJ271X; Model: *; Value: 270; Size: 0402
footprint RES0402_SENSE_DVT (Chip resistor 0402)
pins: 1, 2

## R_294k_1_0.0625_0402
designator R?, comment 294k
Chip Resistor; Vendor: Venko; Tolerance: 1 %; Power: 0.0625 W; PN: CR0402-16W-T943FT; Model: *; Value: 294k; Size: 0402
footprint RES0402_SENSE_DVT (Chip resistor 0402)
pins: 1, 2

## R_301k_1_0.125_0805
designator R?, comment 301k
Chip Resistor; Vendor: Panasonic; Tolerance: 1 %; Power: 0.125 W; PN: ERJ-6ENF3013V; Model: *; Value: 301k; Size: 0805
footprint RES0805_SENSE_DVT (Chip resistor 0805)
pins: 1, 2

## R_324_1_0.125_0805
designator R?, comment 324
Chip Resistor; Vendor: Panasonic; Tolerance: 1 %; Power: 0.125 W; PN: ERJ-6ENF3240V; Model: *; Value: 324; Size: 0805
footprint RES0805_SENSE_DVT (Chip resistor 0805)
pins: 1, 2

## R_475_1_0.1_0402
designator R?, comment 475
Chip Resistor; Vendor: Panasonic; Tolerance: 1 %; Power: 0.1 W; PN: ERJ-2RKF4750X; Model: *; Value: 475; Size: 0402
footprint RES0402_SENSE_DVT (Chip resistor 0402)
pins: 1, 2

## R_475_1_0.05_0201
designator R?, comment 475
Chip Resistor; Vendor: Panasonic; Tolerance: 1 %; Power: 0.05 W; PN: ERJ-1GEF4750C; Model: *; Value: 475; Size: 0201
footprint RES0402 (Chip resistor 0402 high density)
pins: 1, 2

## R_487k_1_0.05_0201
designator R?, comment 487k
Chip Resistor; Vendor: Panasonic; Tolerance: 1 %; Power: 0.05 W; PN: ERJ-1GEF4873C; Model: *; Value: 487k; Size: 0201
footprint RES0201 (Chip resistor 0201 high density)
pins: 1, 2

## R_499k_1_0.1_0402
designator R?, comment 499k
Chip Resistor; Vendor: Panasonic; Tolerance: 1 %; Power: 0.1 W; PN: ERJ-2RKF4993X; Model: *; Value: 499k; Size: 0402
footprint RES0402_SENSE_DVT (Chip resistor 0402)
pins: 1, 2

## R_523k_1_0.1_0402
designator R?, comment 523k
Chip Resistor; Vendor: Panasonic; Tolerance: 1 %; Power: 0.1 W; PN: ERJ-2RKF5233X; Model: *; Value: 523k; Size: 0402
footprint RES0402_SENSE_DVT (Chip resistor 0402)
pins: 1, 2

## R_523k_1_0.05_0201
designator R?, comment 523k
Chip Resistor; Vendor: Panasonic; Tolerance: 1 %; Power: 0.05 W; PN: ERJ-1GEF5233C; Model: *; Value: 523k; Size: 0201
footprint RES0201 (Chip resistor 0201 high density)
pins: 1, 2

## R_549k_1_0.1_0402
designator R?, comment 549k
Chip Resistor; Vendor: Panasonic; Tolerance: 1 %; Power: 0.1 W; PN: ERJ-2RKF5493X; Model: *; Value: 549k; Size: 0402
footprint RES0402_SENSE_DVT (Chip resistor 0402)
pins: 1, 2

## R_576k_1_0.125_0805
designator R?, comment 576k
Chip Resistor; Vendor: Panasonic; Tolerance: 1 %; Power: 0.125 W; PN: ERJ-6ENF5763V; Model: *; Value: 576k; Size: 0805
footprint RES0805_SENSE_DVT (Chip resistor 0805)
pins: 1, 2

## R_680_1_0.1_0603
designator R?, comment 680
Chip Resistor; Vendor: Panasonic; Tolerance: 1 %; Power: 0.1 W; PN: ERJ-3EKF6800V; Model: *; Value: 680; Size: 0603
footprint RES0603_SENSE_DVT (Chip resistor 0603)
pins: 1, 2

## R_931k_1_0.1_0402
designator R?, comment 931k
Chip Resistor; Vendor: Panasonic; Tolerance: 1 %; Power: 0.1 W; PN: ERJ-2RKF9313X; Model: *; Value: 931k; Size: 0402
footprint RES0402_SENSE_DVT (Chip resistor 0402)
pins: 1, 2

## REF5030IDGKT
designator U?  Vendor: TI  (hidden comment: REF5030IDGKT)
3.0V voltage reference; PN: REF5030IDGKT
footprint SOIC-8_0.65 (SOIC, 8-Leads, Body 4.92x3.90mm, Pitch 0.65mm, IPC High Density)
pins: 1 DNC "DO NOT CONNECT", 2 VIN (power), 3 TEMP (out), 4 GND (power), 5 TRIM/NR, 6 VOUT (out), 7 NC, 8 DNC "DO NOT CONNECT"

## REF5045IDGKT
designator U?  Vendor: TI  (hidden comment: REF5045IDGKT)
4.5V voltage reference; PN: REF5045IDGKT
footprint SOIC-8_0.65 (SOIC, 8-Leads, Body 4.92x3.90mm, Pitch 0.65mm, IPC High Density)
pins: 1 DNC "DO NOT CONNECT", 2 VIN (power), 3 TEMP (out), 4 GND (power), 5 TRIM/NR, 6 VOUT (out), 7 NC, 8 DNC "DO NOT CONNECT"

## Res-SMT
designator R?
Chip Resistor; Vendor: Panasonic; Tolerance: 10%; Power: 1/6 W; Model: *; Value: *; Size: 0201
footprint CAP0201 (Chip Capacitor, 2-Leads, Body 0201 / 0.60x0.30mm, IPC High Density)
footprint CAP0402 (Chip Capacitor, 2-Leads, Body 0402 / 0.10x0.50mm, IPC High Density)
pins: 1, 2

## RSX-10
designator X?
Rakon RSX-10 16MHz XTAL
footprint RSX-10 (Rakon RSX-10 2.5mm x 2.0mm 4pin Xtal)
pins: 1 XTAL1, 2 GND, 3 XTAL2, 4 GND

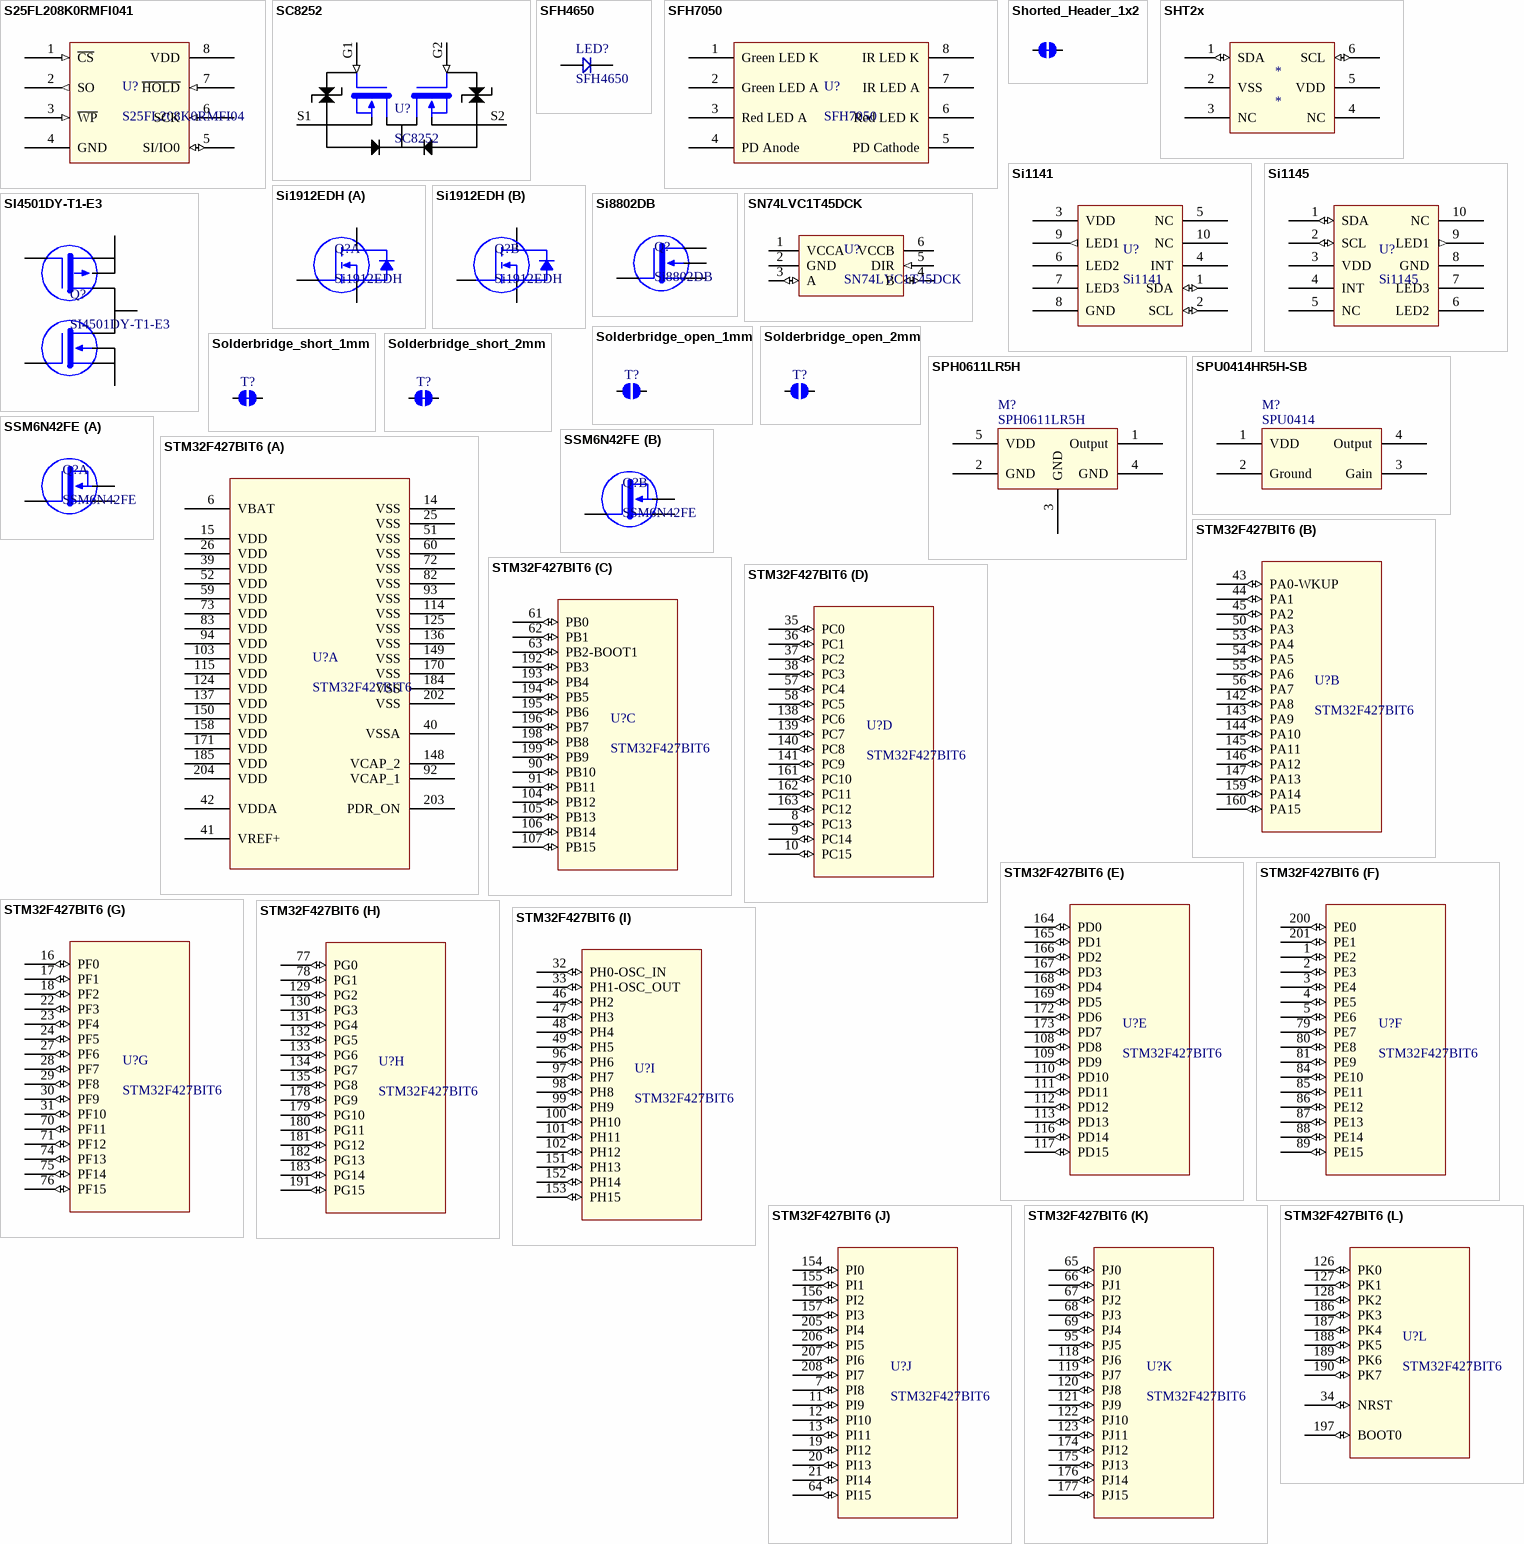
[diagram p9: symbols S25FL208K0RMFI041 to STM32F427BIT6]

## S25FL208K0RMFI041
designator U?, comment S25FL208K0RMFI04
Spansion 8Mb Flash memory, SPI; PN: S25FL208K0RMFI04; Vendor: Spansion
footprint SOIC-8 (SOIC, 8-Leads, Body 4.92x3.90mm, Pitch 1.27mm, IPC High Density)
pins: 1 ~{CS} (in), 2 SO (out), 3 ~{WP} (in), 4 GND (power), 5 SI/IO0 (io), 6 SCK (in), 7 ~{HOLD} (in), 8 VDD (power)

## SC8252
designator U?
SamHop Dual N-Chan Enhancement Mode MOSFET
footprint WLCSP4-1.53 (4-Ball WLCSP 1.53 x 1.53mm)
pins: G1 (in), G2 (in), S1 (power), S2 (power)

## SFH4650
designator LED?
OSRAM IR LED; PN: SFH4650; Vendor: OSRAM
footprint SFH4650 (OSRAM IR LED)
pins: 1 Anode, 2 Cathode

## SFH7050
designator U?
BioMon sensor, 3 LEDs and one detectors; Vendor: OSRAM; PN: SFH7050
footprint SFH7050 (Osram BioMon custom footprint, 4.8x2.6 mm)
pins: 1 Green LED K, 2 Green LED A, 3 Red LED A, 4 PD Anode, 5 PD Cathode, 6 Red LED K, 7 IR LED A, 8 IR LED K

## Shorted_Header_1x2
designator J?  (value not drawn)  (net tie, no BOM)
Shorted 1x2 header
footprint Short_HDR1x2 (Shorted 1x2 header with cuttable trace)
pins: 1, 2

## SHT2x
designator *
footprint Sensirion_SHT2x (Sensirion's T/H sensor SHT2x)
pins: 1 SDA (io), 2 VSS (power), 3 NC, 4 NC, 5 VDD (power), 6 SCL (io)

## Si1141
designator U?
Proximity / UV / Ambient light sensor with I2C interface; Vendor: Silicon Labs; PN: Si1141
footprint Si114x (Silicon Labs Si1145/46/47)
pins: 1 SDA (io), 2 SCL (io), 3 VDD (power), 4 INT (oc), 5 NC, 6 LED2, 7 LED3, 8 GND (power), 9 LED1 (out), 10 NC

## Si1145
designator U?
Proximity / UV / Ambient light sensor with I2C interface; Vendor: Silicon Labs; PN: Si1145
footprint Si114x (Silicon Labs Si1145/46/47)
pins: 1 SDA (io), 2 SCL (io), 3 VDD (power), 4 INT (oc), 5 NC, 6 LED2, 7 LED3, 8 GND (power), 9 LED1 (out), 10 NC

## Si1912EDH
designator Q?
Vishay Dual N-Channel MOSFET 1.8v drive 20V 1A; PN: Si1912EDH; Vendor: Vishay
footprint SC-70-6 (SC-70 with 6 leads)
part A pins: 1 S1, 2 G1, 6 D1
part B pins: 3 D2, 4 S2, 5 G2

## SI4501DY-T1-E3
designator Q?
Complementary MOSFET; Vendor: Vishay; PN: SI4501DY-T1-E3
footprint SOIC-8 (SOIC, 8-Leads, Body 4.92x3.90mm, Pitch 1.27mm, IPC High Density)
pins: 1 S1, 2 G1, 3 S2, 4 G2, 5,6,7,8 D

## Si8802DB
designator Q?
Vishay 8V N-channel MOSFET
footprint BGA-4 (BGA, 4-Leads, Body 0.80x0.80mmx0.40mm, Pitch 0.40mm for Si8802DB)
pins: 1 G, 2 S, 3 S, 4 D

## SN74LVC1T45DCK
designator U?
Single-bit dual-supply bus transceiver; Vendor: TI; PN: SN74LVC1T45DCK
footprint SC-70-6 (SC-70 with 6 leads)
pins: 1 VCCA (power), 2 GND (power), 3 A (io), 4 B (io), 5 DIR (in), 6 VCCB (power)

## Solderbridge_open_1mm
designator T?  (value not drawn)
Solderbridge, open
footprint Solderbridge_open_1mm (Solderbridge for debugging)
pins: 1, 2

## Solderbridge_open_2mm
designator T?  (value not drawn)
Solderbridge, open
footprint Solderbridge_open_2mm (Solderbridge for debugging)
pins: 1, 2

## Solderbridge_short_1mm
designator T?  (value not drawn)  (net tie, no BOM)
Solderbridge, shorted
footprint Solderbridge_short_1mm (Solderbridge for debugging)
pins: 1, 2

## Solderbridge_short_2mm
designator T?  (value not drawn)
Solderbridge, shorted
footprint Solderbridge_short_2mm (Solderbridge for debugging)
pins: 1, 2

## SPH0611LR5H
designator M?
Knolwes Microphone; Vendor: Knowles; PN: SPH0611LR5H
footprint SPH0611 (Knowles SiSonic Microphone, 3.5x2.65mm)
pins: 1 Output, 2 GND (power), 3 GND (power), 4 GND (power), 5 VDD (power)

## SPU0414HR5H-SB
designator M?, comment SPU0414
Knolwes Microphone; Vendor: Knowles; PN: SPU0414HR5H-SB
footprint BGA4C170X246P3.00X3.75X90 (BGA, 4-Leads, Body 3.00x3.75mmx0.90mm, Pitch 0.1.70x2.46mm)
pins: 1 VDD (power), 2 Ground (power), 3 Gain, 4 Output

## SSM6N42FE
designator Q?
Toshiba Dual N-Channel MOSFET 1.5v drive 20V 800ma; PN: SSM6N42FE; Vendor: Toshiba
footprint ES6 (SOT-563 6-pin 1.6x1.6x0.55mm)
part A pins: 1 S1, 2 G1, 6 D1
part B pins: 3 D2, 4 S2, 5 G2

## STM32F427BIT6
designator U?
ST ARM-M4 uC; Vendor: ST microelectronics; PN: STM32F427BIT6
footprint LQFP208 (208 pin, QFP package)
part A pins: 6 VBAT (power), 14 VSS (power), 15 VDD (power), 25 VSS (power), 26 VDD (power), 39 VDD (power), 40 VSSA (power), 41 VREF+ (power), 42 VDDA (power), 51 VSS (power), 52 VDD (power), 59 VDD (power), 60 VSS (power), 72 VSS (power), 73 VDD (power), 82 VSS (power), 83 VDD (power), 92 VCAP_1 (power), 93 VSS (power), 94 VDD (power), 103 VDD (power), 114 VSS (power), 115 VDD (power), 124 VDD (power), 125 VSS (power), 136 VSS (power), 137 VDD (power), 148 VCAP_2 (power), 149 VSS (power), 150 VDD (power), 158 VDD (power), 170 VSS (power), 171 VDD (power), 184 VSS (power), 185 VDD (power), 202 VSS (power), 203 PDR_ON (power), 204 VDD (power)
part B pins: 43 PA0-WKUP (io), 44 PA1 (io), 45 PA2 (io), 50 PA3 (io), 53 PA4 (io), 54 PA5 (io), 55 PA6 (io), 56 PA7 (io), 142 PA8 (io), 143 PA9 (io), 144 PA10 (io), 145 PA11 (io), 146 PA12 (io), 147 PA13 (io), 159 PA14 (io), 160 PA15 (io)
part C pins: 61 PB0 (io), 62 PB1 (io), 63 PB2-BOOT1 (io), 90 PB10 (io), 91 PB11 (io), 104 PB12 (io), 105 PB13 (io), 106 PB14 (io), 107 PB15 (io), 192 PB3 (io), 193 PB4 (io), 194 PB5 (io), 195 PB6 (io), 196 PB7 (io), 198 PB8 (io), 199 PB9 (io)
part D pins: 8 PC13 (io), 9 PC14 (io), 10 PC15 (io) "EFuse programming supply, GND if no programming, else pull-down)", 35 PC0 (io), 36 PC1 (io), 37 PC2 (io), 38 PC3 (io), 57 PC4 (io), 58 PC5 (io), 138 PC6 (io), 139 PC7 (io), 140 PC8 (io), 141 PC9 (io), 161 PC10 (io), 162 PC11 (io), 163 PC12 (io)
part E pins: 108 PD8 (io), 109 PD9 (io), 110 PD10 (io), 111 PD11 (io), 112 PD12 (io), 113 PD13 (io), 116 PD14 (io), 117 PD15 (io), 164 PD0 (io), 165 PD1 (io), 166 PD2 (io), 167 PD3 (io), 168 PD4 (io), 169 PD5 (io), 172 PD6 (io), 173 PD7 (io)
part F pins: 1 PE2 (io), 2 PE3 (io), 3 PE4 (io), 4 PE5 (io), 5 PE6 (io), 79 PE7 (io), 80 PE8 (io), 81 PE9 (io), 84 PE10 (io), 85 PE11 (io), 86 PE12 (io), 87 PE13 (io), 88 PE14 (io), 89 PE15 (io), 200 PE0 (io), 201 PE1 (io)
part G pins: 16 PF0 (io), 17 PF1 (io), 18 PF2 (io), 22 PF3 (io), 23 PF4 (io), 24 PF5 (io), 27 PF6 (io), 28 PF7 (io), 29 PF8 (io), 30 PF9 (io), 31 PF10 (io), 70 PF11 (io), 71 PF12 (io), 74 PF13 (io), 75 PF14 (io), 76 PF15 (io)
part H pins: 77 PG0 (io), 78 PG1 (io), 129 PG2 (io), 130 PG3 (io), 131 PG4 (io), 132 PG5 (io), 133 PG6 (io), 134 PG7 (io), 135 PG8 (io), 178 PG9 (io), 179 PG10 (io), 180 PG11 (io), 181 PG12 (io), 182 PG13 (io), 183 PG14 (io), 191 PG15 (io)
part I pins: 32 PH0-OSC_IN (io), 33 PH1-OSC_OUT (io), 46 PH2 (io), 47 PH3 (io), 48 PH4 (io), 49 PH5 (io), 96 PH6 (io), 97 PH7 (io), 98 PH8 (io), 99 PH9 (io), 100 PH10 (io), 101 PH11 (io), 102 PH12 (io), 151 PH13 (io), 152 PH14 (io), 153 PH15 (io)
part J pins: 7 PI8 (io), 11 PI9 (io) "Tie low during normal operation", 12 PI10 (io), 13 PI11 (io), 19 PI12 (io), 20 PI13 (io), 21 PI14 (io), 64 PI15 (io), 154 PI0 (io), 155 PI1 (io), 156 PI2 (io), 157 PI3 (io), 205 PI4 (io), 206 PI5 (io), 207 PI6 (io), 208 PI7 (io)
part K pins: 65 PJ0 (io), 66 PJ1 (io), 67 PJ2 (io), 68 PJ3 (io), 69 PJ4 (io), 95 PJ5 (io), 118 PJ6 (io), 119 PJ7 (io), 120 PJ8 (io), 121 PJ9 (io), 122 PJ10 (io), 123 PJ11 (io), 174 PJ12 (io), 175 PJ13 (io), 176 PJ14 (io), 177 PJ15 (io)
part L pins: 34 NRST (io), 126 PK0 (io), 127 PK1 (io), 128 PK2 (io), 186 PK3 (io), 187 PK4 (io), 188 PK5 (io), 189 PK6 (io), 190 PK7 (io), 197 BOOT0 (io)

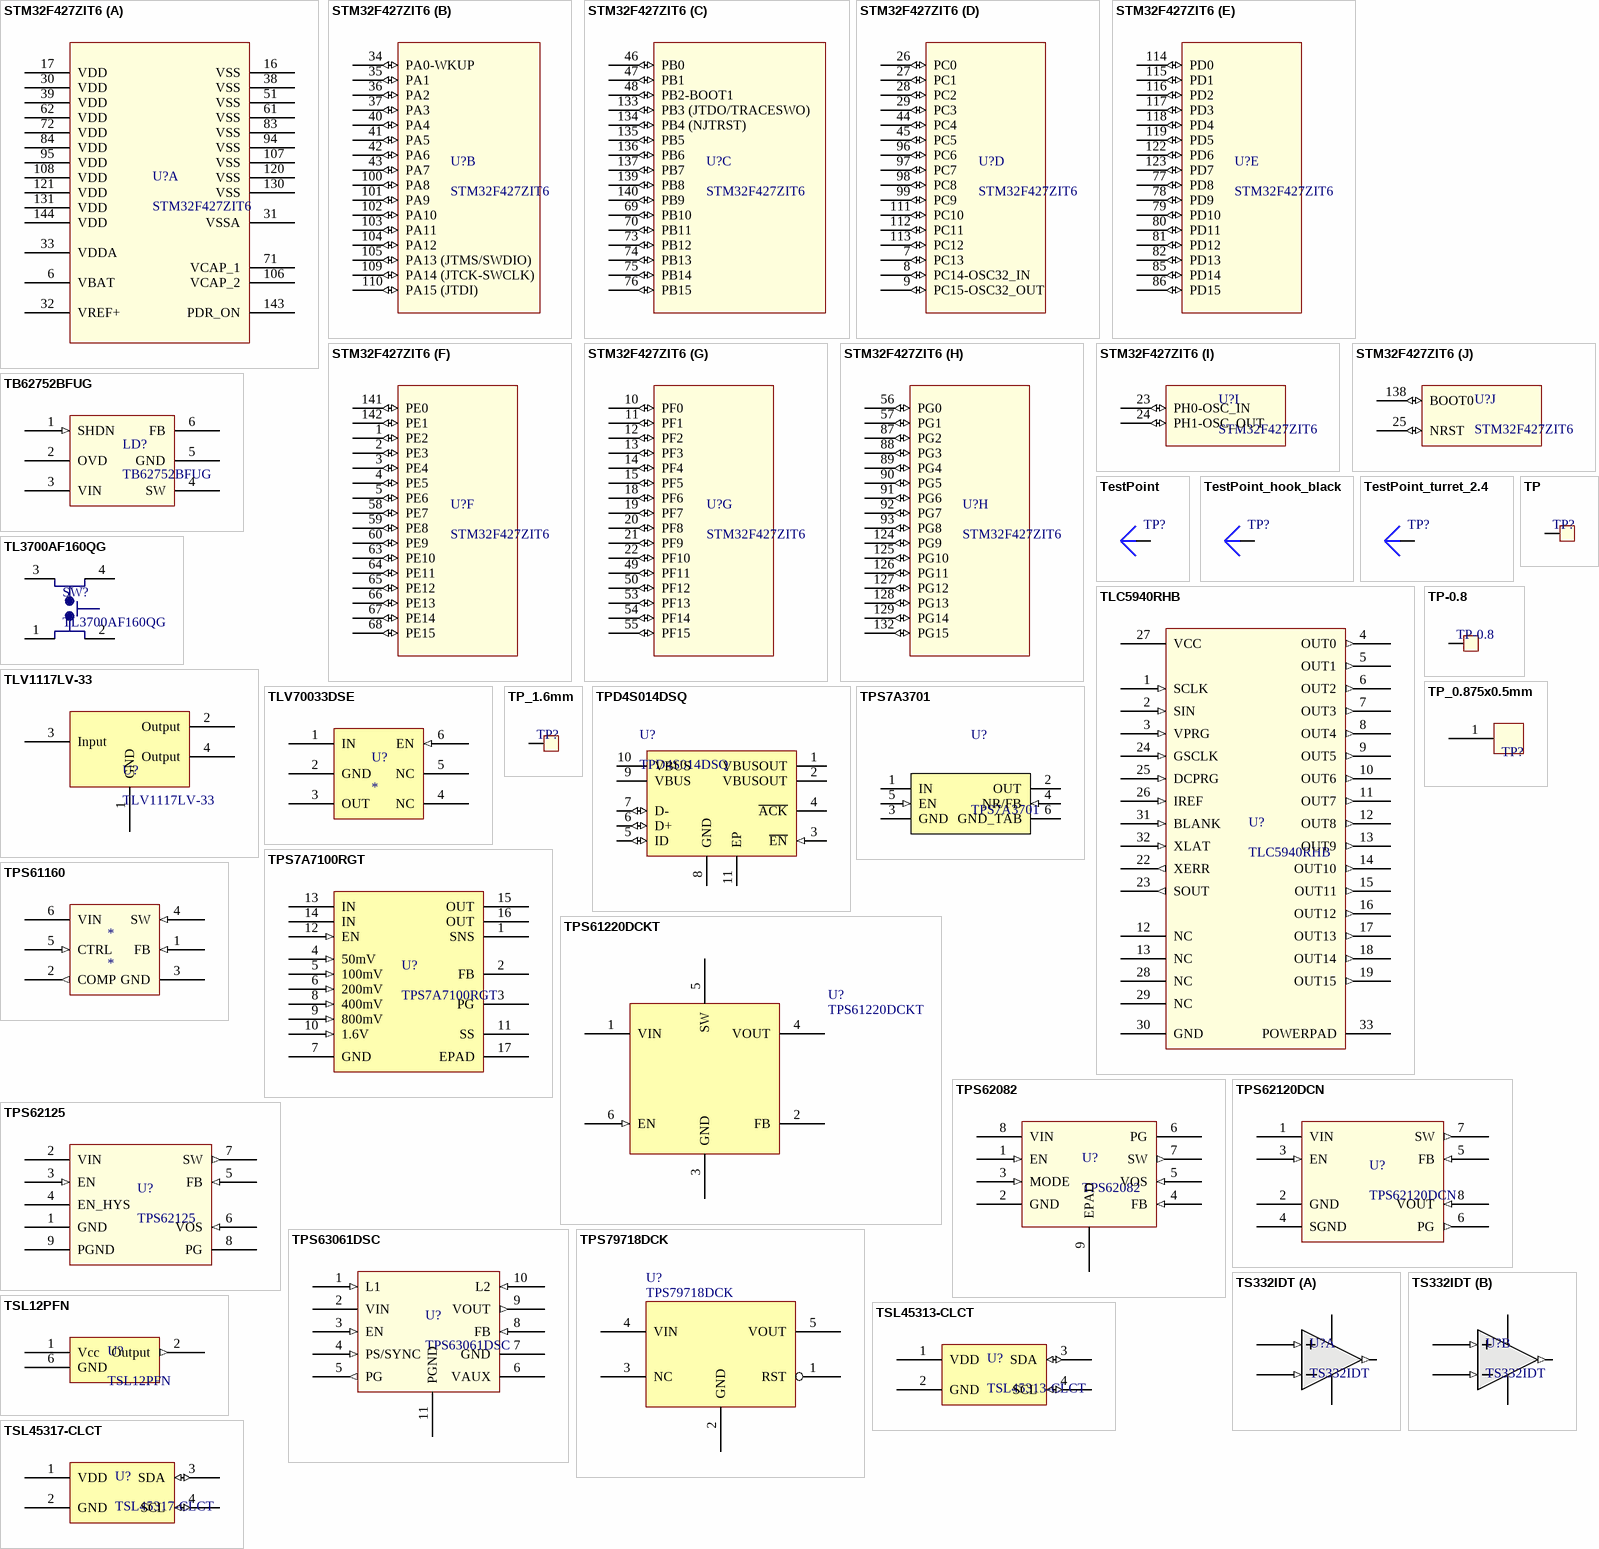
[diagram p10: symbols STM32F427ZIT6 to TSL45317-CLCT]

## STM32F427ZIT6
designator U?
ST ARM-M4 uC; Vendor: ST microelectronics; PN: STM32F427ZIT6
footprint LQFP144 (144 pin LQFP package)
part A pins: 6 VBAT (power), 16 VSS (power), 17 VDD (power), 30 VDD (power), 31 VSSA (power), 32 VREF+ (power), 33 VDDA (power), 38 VSS (power), 39 VDD (power), 51 VSS (power), 61 VSS (power), 62 VDD (power), 71 VCAP_1 (power), 72 VDD (power), 83 VSS (power), 84 VDD (power), 94 VSS (power), 95 VDD (power), 106 VCAP_2 (power), 107 VSS (power), 108 VDD (power), 120 VSS (power), 121 VDD (power), 130 VSS (power), 131 VDD (power), 143 PDR_ON (power), 144 VDD (power)
part B pins: 34 PA0-WKUP (io), 35 PA1 (io), 36 PA2 (io), 37 PA3 (io), 40 PA4 (io), 41 PA5 (io), 42 PA6 (io), 43 PA7 (io), 100 PA8 (io), 101 PA9 (io), 102 PA10 (io), 103 PA11 (io), 104 PA12 (io), 105 PA13 (JTMS/SWDIO) (io), 109 PA14 (JTCK-SWCLK) (io), 110 PA15 (JTDI) (io)
part C pins: 46 PB0 (io), 47 PB1 (io), 48 PB2-BOOT1 (io), 69 PB10 (io), 70 PB11 (io), 73 PB12 (io), 74 PB13 (io), 75 PB14 (io), 76 PB15 (io), 133 PB3 (JTDO/TRACESWO) (io), 134 PB4 (NJTRST) (io), 135 PB5 (io), 136 PB6 (io), 137 PB7 (io), 139 PB8 (io), 140 PB9 (io)
part D pins: 7 PC13 (io), 8 PC14-OSC32_IN (io), 9 PC15-OSC32_OUT (io) "EFuse programming supply, GND if no programming, else pull-down)", 26 PC0 (io), 27 PC1 (io), 28 PC2 (io), 29 PC3 (io), 44 PC4 (io), 45 PC5 (io), 96 PC6 (io), 97 PC7 (io), 98 PC8 (io), 99 PC9 (io), 111 PC10 (io), 112 PC11 (io), 113 PC12 (io)
part E pins: 77 PD8 (io), 78 PD9 (io), 79 PD10 (io), 80 PD11 (io), 81 PD12 (io), 82 PD13 (io), 85 PD14 (io), 86 PD15 (io), 114 PD0 (io), 115 PD1 (io), 116 PD2 (io), 117 PD3 (io), 118 PD4 (io), 119 PD5 (io), 122 PD6 (io), 123 PD7 (io)
part F pins: 1 PE2 (io), 2 PE3 (io), 3 PE4 (io), 4 PE5 (io), 5 PE6 (io), 58 PE7 (io), 59 PE8 (io), 60 PE9 (io), 63 PE10 (io), 64 PE11 (io), 65 PE12 (io), 66 PE13 (io), 67 PE14 (io), 68 PE15 (io), 141 PE0 (io), 142 PE1 (io)
part G pins: 10 PF0 (io), 11 PF1 (io), 12 PF2 (io), 13 PF3 (io), 14 PF4 (io), 15 PF5 (io), 18 PF6 (io), 19 PF7 (io), 20 PF8 (io), 21 PF9 (io), 22 PF10 (io), 49 PF11 (io), 50 PF12 (io), 53 PF13 (io), 54 PF14 (io), 55 PF15 (io)
part H pins: 56 PG0 (io), 57 PG1 (io), 87 PG2 (io), 88 PG3 (io), 89 PG4 (io), 90 PG5 (io), 91 PG6 (io), 92 PG7 (io), 93 PG8 (io), 124 PG9 (io), 125 PG10 (io), 126 PG11 (io), 127 PG12 (io), 128 PG13 (io), 129 PG14 (io), 132 PG15 (io)
part I pins: 23 PH0-OSC_IN (io), 24 PH1-OSC_OUT (io)
part J pins: 25 NRST (io), 138 BOOT0 (io)

## TB62752BFUG
designator LD?
Toshiba LED Driver
footprint TB62755FPG (6-Pin QFN LED Driver)
pins: 1 SHDN (in), 2 OVD (power), 3 VIN (power), 4 SW, 5 GND (power), 6 FB (power), 7 (power) hidden to GND

## TestPoint
designator TP?  (value not drawn)
Generic Test Point
footprint TP-0.3 (0.3mm radius Test Point)
footprint TP-0.4-Dual (Dual sided Test Point 0.4mm)
pins: 1 "Test Point"

## TestPoint_hook_black
designator TP?  (value not drawn)
Hook Test Point; PN: 5006; Vendor: Keystone
footprint HOOK_1.7mm (Hook test point)
pins: 1 "Test Point"

## TestPoint_turret_2.4
designator TP?  (value not drawn)
Turret Test Point; PN: 2501-2-00-44-00-00-07-0; Vendor: Mill-Max
footprint TURRET_2.4mm (Turret_2.4mm)
pins: 1 "Test Point"

## TL3700AF160QG
designator SW?
SPST-NO tactile pushbutton 160gf; Vendor: E-switch; PN: TL3700AF160QG
footprint TL3700AF160QG (custom footprint for TL3700 pushbuttons)
pins: 1, 2, 3, 4

## TLC5940RHB
designator U?
16 channels LED driver 120mA; Vendor: Texas Instruments; PN: TLC5940RHB
footprint QFN-33_5x5mm
pins: 1 SCLK (in), 2 SIN (in), 3 VPRG (in), 4 OUT0 (out), 5 OUT1 (out), 6 OUT2 (out), 7 OUT3 (out), 8 OUT4 (out), 9 OUT5 (out), 10 OUT6 (out), 11 OUT7 (out), 12 OUT8 (out), 12 NC, 13 OUT9 (out), 13 NC, 14 OUT10 (out), 15 OUT11 (out), 16 OUT12 (out), 17 OUT13 (out), 18 OUT14 (out), 19 OUT15 (out), 22 XERR (out), 23 SOUT (out), 24 GSCLK (in), 25 DCPRG (in), 26 IREF (in), 27 VCC (power), 28 NC, 29 NC, 30 GND (power), 31 BLANK (in), 32 XLAT (in), 33 POWERPAD

## TLV1117LV-33
designator U?
TI LDO 3.3v 800ma IC Regulator 4.7-15v
footprint SOT-223 (SOT223, 4-Leads, Body 6.50x7.00mm (avg), Pitch 2.30mm, IPC High Density)
pins: 1 GND (power), 2 Output, 3 Input (power), 4 Output (power)

## TLV70033DSE
designator U?
LDO Regulator; PN: TLV70033DSE; Vendor: TI
footprint TLV70033DSE (SON-6 footprint for TLV70033)
pins: 1 IN (power) "input pin. tie a 1uf cap", 2 GND (power) "ground", 3 OUT (power) "regulated output at 3.3V", 4 NC "not connected", 5 NC "not connected", 6 EN (in) "enable pin"

## TP
designator TP?  (value not drawn)
testpoint
footprint TP-0.3 (0.3mm radius Test Point)
footprint TP-0.6 (6mm test point)
footprint TP-1.1 (1.1mm TestPoint)
pins: 1

## TP-0.8
designator TP-0.8  (value not drawn)
testpoint
footprint TP-0.8 (0.8mm test point)
pins: 1

## TP_0.875x0.5mm
designator TP?, comment TP?
Single-pad test point, 0.875x0.5mm
footprint 5016 (Single-pad test point)
footprint TP0875x050 (Test Pad 0.875x0.50mm)
pins: 1
1 alternate drawing of the same symbol

## TP_1.6mm
designator TP?  (value not drawn)
testpoint
footprint TP-1.6 (1.6mm TestPoint)
pins: 1

## TPD4S014DSQ
designator U?
TPD4S014 USB Charger Port Protection Including ESD Protection for all Lines and Over Voltage Protection on VBUS. D+/D-/ID pins are interchangable.; Vendor: Texas Instruments; Supplier 1: Digi-Key; Supplier Part Number 1: 296-29093-1-ND; PN: TPD4S014DSQ
footprint DSQ10-1500X900TP (SON, 10-Leads, Body 2x2mm, Pitch 0.4mm, Thermal Pad 1.5x0.9mm, TI Recommended)
pins: 1 VBUSOUT (power) "Connect to PCB internal PCB plane", 2 VBUSOUT (power) "Connect to PCB internal PCB plane", 3 ~{EN} (in) "Enable Active-Low Input. Drive EN low to enable the switch. Drive EN high to disable the switch.", 4 ~{ACK} (oc) "Open-Drain Adapter-Voltage Indicator Output. ACOK is driven low after the VIN voltage is stable between UVLO and OVLO for 16ms (typ). Connect a pullup resistor from ACOK to the logic I/O voltage of the host system.", 5 ID (io) "USB ID signal", 6 D+ (io) "USB data-", 7 D- (io) "USB data+", 8 GND (power) "Connect to PCB ground plane", 9 VBUS (power) "USB connector VBUS", 10 VBUS (power) "USB connector VBUS", 11 EP (power) "Electrically disconnected. Use as heat sink. Connect to GND plane via large PCB PAD"

## TPS7A3701
designator U?
1% accuracy 1A LDO with reverse current protection; Vendor: TI; PN: TPS7A3701
footprint SOT127P706X180-6N (SOT223, 6-Leads, Body 6.50x7.06mm (avg), Pitch 1.27mm, IPC Medium Density)
pins: 1 IN (power), 2 OUT (power), 3 GND (power), 4 NR/FB (in), 5 EN (in), 6 GND_TAB (power)

## TPS7A7100RGT
designator U?
1A fast-transient LDO; Vendor: TI; PN: TPS7A7100RGT
footprint QFN50P300X300X100_HS-17N (QFN, 16-Leads, Body 3.00x3.00mm, Pitch 0.50mm, Thermal Pad 1.66x1.66mm, IPC Medium Density)
pins: 1 SNS, 2 FB, 3 PG (oc), 4 50mV (in), 5 100mV (in), 6 200mV (in), 7 GND (power), 8 400mV (in), 9 800mV (in), 10 1.6V (in), 11 SS, 12 EN (in), 13 IN (power), 14 IN (power), 15 OUT (power), 16 OUT (power), 17 EPAD (power)

## TPS61160
designator *
TI LED Driver
footprint QFN-6 (6-pin QFN w/ thermal pad TI TPC61160 2.10 x 2.10 x 0.80mm)
pins: 1 FB (in), 2 COMP (out), 3 GND (power), 4 SW (in), 5 CTRL (in), 6 VIN (power), 7 (power) hidden to GND